# Altium integrated library ubloxLib.IntLib: 88 symbols (part 1 of 3)
Pins are listed as number, name and electrical type; pins without a type are passive.

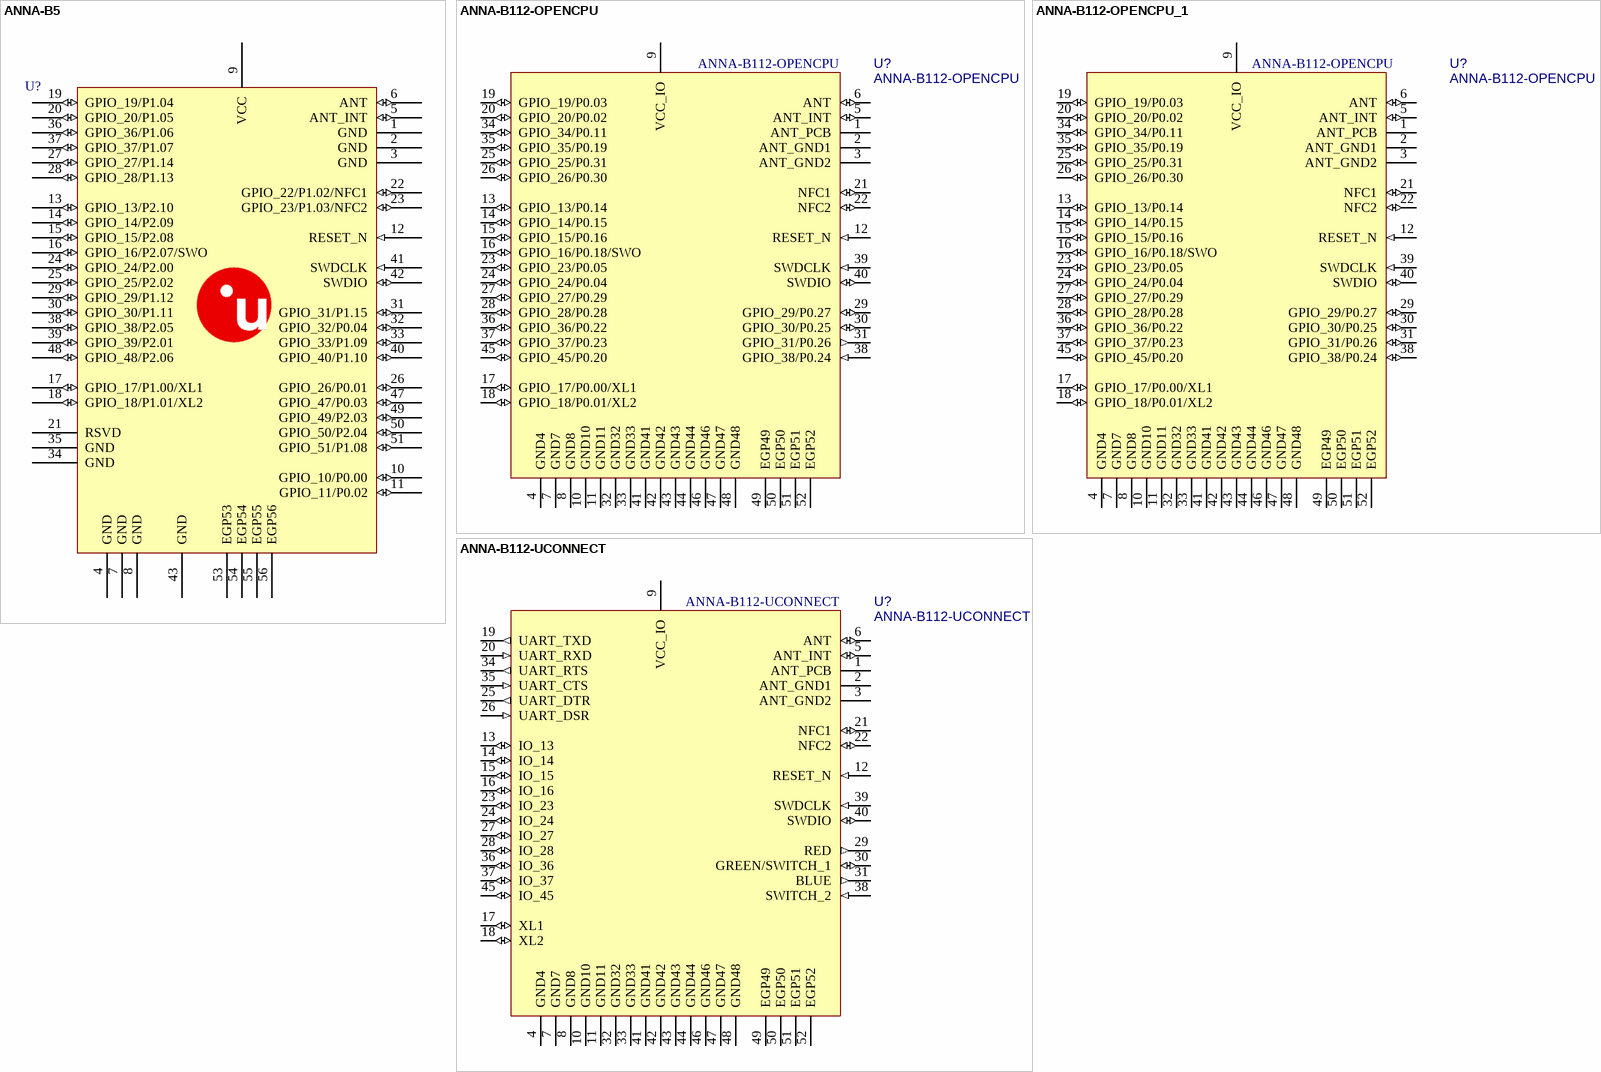
[diagram p0: symbols ANNA-B5 to ANNA-B112-UCONNECT]

## ANNA-B5
designator U?
SHORT RANGE BLE AND IEEE802.15.4 SIP U-BLOX ANNA-B5
footprint ANNA-B5 (Stand-alone BLE and IEEE802.15.4 module)
pins: 1 GND (power), 2 GND (power), 3 GND (power), 4 GND (power), 5 ANT_INT (io), 6 ANT (io), 7 GND (power), 8 GND (power), 9 VCC (power), 10 GPIO_10/P0.00 (io), 11 GPIO_11/P0.02 (io), 12 RESET_N (in), 13 GPIO_13/P2.10 (io), 14 GPIO_14/P2.09 (io), 15 GPIO_15/P2.08 (io), 16 GPIO_16/P2.07/SWO (io), 17 GPIO_17/P1.00/XL1 (io), 18 GPIO_18/P1.01/XL2 (io), 19 GPIO_19/P1.04 (io), 20 GPIO_20/P1.05 (io), 21 RSVD (power), 22 GPIO_22/P1.02/NFC1 (io), 23 GPIO_23/P1.03/NFC2 (io), 24 GPIO_24/P2.00 (io), 25 GPIO_25/P2.02 (io), 26 GPIO_26/P0.01 (io), 27 GPIO_27/P1.14 (io), 28 GPIO_28/P1.13 (io), 29 GPIO_29/P1.12 (io), 30 GPIO_30/P1.11 (io), 31 GPIO_31/P1.15 (io), 32 GPIO_32/P0.04 (io), 33 GPIO_33/P1.09 (io), 34 GND (power), 35 GND (power), 36 GPIO_36/P1.06 (io), 37 GPIO_37/P1.07 (io), 38 GPIO_38/P2.05 (io), 39 GPIO_39/P2.01 (io), 40 GPIO_40/P1.10 (io), 41 SWDCLK (in), 42 SWDIO (io), 43 GND (power), 47 GPIO_47/P0.03 (io), 48 GPIO_48/P2.06 (io), 49 GPIO_49/P2.03 (io), 50 GPIO_50/P2.04 (io), 51 GPIO_51/P1.08 (io), 53 EGP53 (power), 54 EGP54 (power), 55 EGP55 (power), 56 EGP56 (power)

## ANNA-B112-OPENCPU
designator U?
u-blox ANNA-B112 Bluetooth 5 LE module; Part Description: Stand-alone Bluetooth low energy module; Manufacturer: u-blox; Value: ANNA-B112-OPENCPU
footprint ANNA_LGA52S_650X650
pins: 1 ANT_PCB, 2 ANT_GND1 (power), 3 ANT_GND2 (power), 4 GND4 (power), 5 ANT_INT (io), 6 ANT (io), 7 GND7 (power), 8 GND8 (power), 9 VCC_IO (power), 10 GND10 (power), 11 GND11 (power), 12 RESET_N (in), 13 GPIO_13/P0.14 (io), 14 GPIO_14/P0.15 (io), 15 GPIO_15/P0.16 (io), 16 GPIO_16/P0.18/SWO (io), 17 GPIO_17/P0.00/XL1 (io), 18 GPIO_18/P0.01/XL2 (io), 19 GPIO_19/P0.03 (io), 20 GPIO_20/P0.02 (io), 21 NFC1 (io), 22 NFC2 (io), 23 GPIO_23/P0.05 (io), 24 GPIO_24/P0.04 (io), 25 GPIO_25/P0.31 (io), 26 GPIO_26/P0.30 (io), 27 GPIO_27/P0.29 (io), 28 GPIO_28/P0.28 (io), 29 GPIO_29/P0.27 (io), 30 GPIO_30/P0.25 (io), 31 GPIO_31/P0.26 (out), 32 GND32 (power), 33 GND33 (power), 34 GPIO_34/P0.11 (io), 35 GPIO_35/P0.19 (io), 36 GPIO_36/P0.22 (io), 37 GPIO_37/P0.23 (io), 38 GPIO_38/P0.24 (in), 39 SWDCLK (in), 40 SWDIO (io), 41 GND41 (power), 42 GND42 (power), 43 GND43 (power), 44 GND44 (power), 45 GPIO_45/P0.20 (io), 46 GND46 (power), 47 GND47 (power), 48 GND48 (power), 49 EGP49 (power), 50 EGP50 (power), 51 EGP51 (power), 52 EGP52 (power)

## ANNA-B112-OPENCPU_1
designator U?, comment ANNA-B112-OPENCPU
u-blox ANNA-B112 Bluetooth 5 LE module; Part Description: Stand-alone Bluetooth low energy module; Manufacturer: u-blox; Value: ANNA-B112-OPENCPU
footprint ANNA_LGA52S_650X650
pins: 1 ANT_PCB, 2 ANT_GND1 (power), 3 ANT_GND2 (power), 4 GND4 (power), 5 ANT_INT (io), 6 ANT (io), 7 GND7 (power), 8 GND8 (power), 9 VCC_IO (power), 10 GND10 (power), 11 GND11 (power), 12 RESET_N (in), 13 GPIO_13/P0.14 (io), 14 GPIO_14/P0.15 (io), 15 GPIO_15/P0.16 (io), 16 GPIO_16/P0.18/SWO (io), 17 GPIO_17/P0.00/XL1 (io), 18 GPIO_18/P0.01/XL2 (io), 19 GPIO_19/P0.03 (io), 20 GPIO_20/P0.02 (io), 21 NFC1 (io), 22 NFC2 (io), 23 GPIO_23/P0.05 (io), 24 GPIO_24/P0.04 (io), 25 GPIO_25/P0.31 (io), 26 GPIO_26/P0.30 (io), 27 GPIO_27/P0.29 (io), 28 GPIO_28/P0.28 (io), 29 GPIO_29/P0.27 (io), 30 GPIO_30/P0.25 (io), 31 GPIO_31/P0.26 (io), 32 GND32 (power), 33 GND33 (power), 34 GPIO_34/P0.11 (io), 35 GPIO_35/P0.19 (io), 36 GPIO_36/P0.22 (io), 37 GPIO_37/P0.23 (io), 38 GPIO_38/P0.24 (io), 39 SWDCLK (in), 40 SWDIO (io), 41 GND41 (power), 42 GND42 (power), 43 GND43 (power), 44 GND44 (power), 45 GPIO_45/P0.20 (io), 46 GND46 (power), 47 GND47 (power), 48 GND48 (power), 49 EGP49 (power), 50 EGP50 (power), 51 EGP51 (power), 52 EGP52 (power)

## ANNA-B112-UCONNECT
designator U?
u-blox ANNA-B112 Bluetooth 5 LE module; Part Description: Stand-alone Bluetooth low energy module; Manufacturer: u-blox; Value: ANNA-B112-UCONNECT
footprint ANNA_LGA52S_650X650
pins: 1 ANT_PCB, 2 ANT_GND1 (power), 3 ANT_GND2 (power), 4 GND4 (power), 5 ANT_INT (io), 6 ANT (io), 7 GND7 (power), 8 GND8 (power), 9 VCC_IO (power), 10 GND10 (power), 11 GND11 (power), 12 RESET_N (in), 13 IO_13 (io), 14 IO_14 (io), 15 IO_15 (io), 16 IO_16 (io), 17 XL1 (io), 18 XL2 (io), 19 UART_TXD (out), 20 UART_RXD (in), 21 NFC1 (io), 22 NFC2 (io), 23 IO_23 (io), 24 IO_24 (io), 25 UART_DTR (out), 26 UART_DSR (in), 27 IO_27 (io), 28 IO_28 (io), 29 RED (out), 30 GREEN/SWITCH_1 (io), 31 BLUE (out), 32 GND32 (power), 33 GND33 (power), 34 UART_RTS (out), 35 UART_CTS (in), 36 IO_36 (io), 37 IO_37 (io), 38 SWITCH_2 (in), 39 SWDCLK (in), 40 SWDIO (io), 41 GND41 (power), 42 GND42 (power), 43 GND43 (power), 44 GND44 (power), 45 IO_45 (io), 46 GND46 (power), 47 GND47 (power), 48 GND48 (power), 49 EGP49 (power), 50 EGP50 (power), 51 EGP51 (power), 52 EGP52 (power)

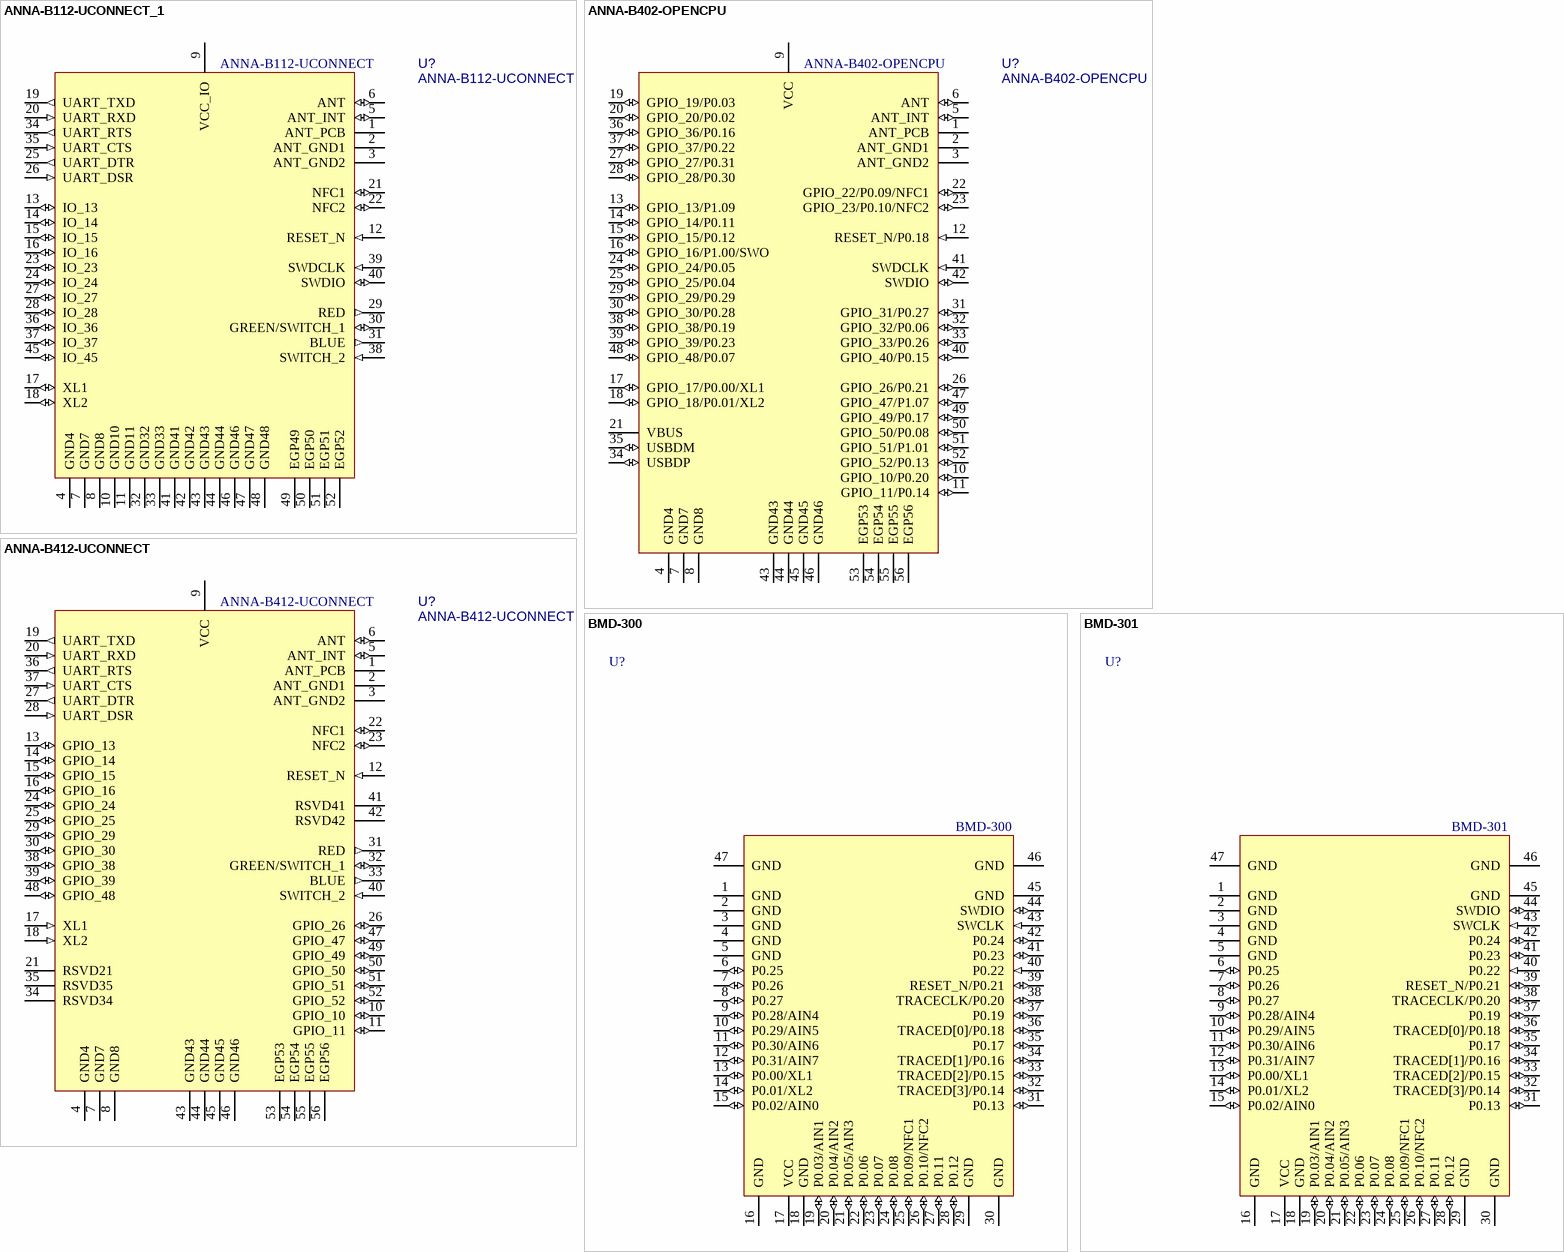
[diagram p1: symbols ANNA-B112-UCONNECT_1 to BMD-301]

## ANNA-B112-UCONNECT_1
designator U?, comment ANNA-B112-UCONNECT
u-blox ANNA-B112 Bluetooth 5 LE module; Part Description: Stand-alone Bluetooth low energy module; Manufacturer: u-blox; Value: ANNA-B112-UCONNECT
footprint ANNA_LGA52S_650X650
pins: 1 ANT_PCB, 2 ANT_GND1 (power), 3 ANT_GND2 (power), 4 GND4 (power), 5 ANT_INT (io), 6 ANT (io), 7 GND7 (power), 8 GND8 (power), 9 VCC_IO (power), 10 GND10 (power), 11 GND11 (power), 12 RESET_N (in), 13 IO_13 (io), 14 IO_14 (io), 15 IO_15 (io), 16 IO_16 (io), 17 XL1 (io), 18 XL2 (io), 19 UART_TXD (out), 20 UART_RXD (in), 21 NFC1 (io), 22 NFC2 (io), 23 IO_23 (io), 24 IO_24 (io), 25 UART_DTR (out), 26 UART_DSR (in), 27 IO_27 (io), 28 IO_28 (io), 29 RED (out), 30 GREEN/SWITCH_1 (io), 31 BLUE (out), 32 GND32 (power), 33 GND33 (power), 34 UART_RTS (out), 35 UART_CTS (in), 36 IO_36 (io), 37 IO_37 (io), 38 SWITCH_2 (in), 39 SWDCLK (in), 40 SWDIO (io), 41 GND41 (power), 42 GND42 (power), 43 GND43 (power), 44 GND44 (power), 45 IO_45 (io), 46 GND46 (power), 47 GND47 (power), 48 GND48 (power), 49 EGP49 (power), 50 EGP50 (power), 51 EGP51 (power), 52 EGP52 (power)

## ANNA-B402-OPENCPU
designator U?
u-blox ANNA-B402 Bluetooth 5 LE module; Part Description: Stand-alone Bluetooth low energy module; Manufacturer: u-blox; Value: ANNA-B402-OPENCPU
footprint ANNA-B4_LGA52S_650X650
pins: 1 ANT_PCB, 2 ANT_GND1 (power), 3 ANT_GND2 (power), 4 GND4 (power), 5 ANT_INT (io), 6 ANT (io), 7 GND7 (power), 8 GND8 (power), 9 VCC (power), 10 GPIO_10/P0.20 (io), 11 GPIO_11/P0.14 (io), 12 RESET_N/P0.18 (in), 13 GPIO_13/P1.09 (io), 14 GPIO_14/P0.11 (io), 15 GPIO_15/P0.12 (io), 16 GPIO_16/P1.00/SWO (io), 17 GPIO_17/P0.00/XL1 (io), 18 GPIO_18/P0.01/XL2 (io), 19 GPIO_19/P0.03 (io), 20 GPIO_20/P0.02 (io), 21 VBUS (power), 22 GPIO_22/P0.09/NFC1 (io), 23 GPIO_23/P0.10/NFC2 (io), 24 GPIO_24/P0.05 (io), 25 GPIO_25/P0.04 (io), 26 GPIO_26/P0.21 (io), 27 GPIO_27/P0.31 (io), 28 GPIO_28/P0.30 (io), 29 GPIO_29/P0.29 (io), 30 GPIO_30/P0.28 (io), 31 GPIO_31/P0.27 (io), 32 GPIO_32/P0.06 (io), 33 GPIO_33/P0.26 (io), 34 USBDP (io), 35 USBDM (io), 36 GPIO_36/P0.16 (io), 37 GPIO_37/P0.22 (io), 38 GPIO_38/P0.19 (io), 39 GPIO_39/P0.23 (io), 40 GPIO_40/P0.15 (io), 41 SWDCLK (in), 42 SWDIO (io), 43 GND43 (power), 44 GND44 (power), 45 GND45 (power), 46 GND46 (power), 47 GPIO_47/P1.07 (io), 48 GPIO_48/P0.07 (io), 49 GPIO_49/P0.17 (io), 50 GPIO_50/P0.08 (io), 51 GPIO_51/P1.01 (io), 52 GPIO_52/P0.13 (io), 53 EGP53 (power), 54 EGP54 (power), 55 EGP55 (power), 56 EGP56 (power)

## ANNA-B412-UCONNECT
designator U?
u-blox ANNA-B112 Bluetooth 5 LE module; Part Description: Stand-alone Bluetooth low energy module; Manufacturer: u-blox; Value: ANNA-B412-UCONNECT
footprint ANNA-B4_LGA52S_650X650
pins: 1 ANT_PCB, 2 ANT_GND1 (power), 3 ANT_GND2 (power), 4 GND4 (power), 5 ANT_INT (io), 6 ANT (io), 7 GND7 (power), 8 GND8 (power), 9 VCC (power), 10 GPIO_10 (io), 11 GPIO_11 (io), 12 RESET_N (in), 13 GPIO_13 (io), 14 GPIO_14 (io), 15 GPIO_15 (io), 16 GPIO_16 (io), 17 XL1 (in), 18 XL2 (in), 19 UART_TXD (out), 20 UART_RXD (in), 21 RSVD21, 22 NFC1 (io), 23 NFC2 (io), 24 GPIO_24 (io), 25 GPIO_25 (io), 26 GPIO_26 (io), 27 UART_DTR (out), 28 UART_DSR (in), 29 GPIO_29 (io), 30 GPIO_30 (io), 31 RED (out), 32 GREEN/SWITCH_1 (io), 33 BLUE (out), 34 RSVD34, 35 RSVD35, 36 UART_RTS (out), 37 UART_CTS (in), 38 GPIO_38 (io), 39 GPIO_39 (io), 40 SWITCH_2 (in), 41 RSVD41, 42 RSVD42, 43 GND43 (power), 44 GND44 (power), 45 GND45 (power), 46 GND46 (power), 47 GPIO_47 (io), 48 GPIO_48 (io), 49 GPIO_49 (io), 50 GPIO_50 (io), 51 GPIO_51 (io), 52 GPIO_52 (io), 53 EGP53 (power), 54 EGP54 (power), 55 EGP55 (power), 56 EGP56 (power)

## BMD-300
designator U?  Part Number: BMD-300
u-blox BMD-300 Bluetooth 5 LE module; Manufacturer P/N: BMD-300-A-R; Body Size: 14mm x 9.8mm; Internal Antenna: PCB; Protocol: BT 5 LE, 2.4GHz Proprietary; Manufacturer: u-blox; Height: 1.9mm
footprint BMD_LGA47S_1400X980X190_PCB (LGA, 47pin, 1.1mm Pitch, 14mm x 9.8mm)
pins: 1 GND (power), 2 GND (power), 3 GND (power), 4 GND (power), 5 GND (power), 6 P0.25 (io), 7 P0.26 (io), 8 P0.27 (io), 9 P0.28/AIN4 (io), 10 P0.29/AIN5 (io), 11 P0.30/AIN6 (io), 12 P0.31/AIN7 (io), 13 P0.00/XL1 (io), 14 P0.01/XL2 (io), 15 P0.02/AIN0 (io), 16 GND (power), 17 VCC (power), 18 GND (power), 19 P0.03/AIN1 (io), 20 P0.04/AIN2 (io), 21 P0.05/AIN3 (io), 22 P0.06 (io), 23 P0.07 (io), 24 P0.08 (io), 25 P0.09/NFC1 (io), 26 P0.10/NFC2 (io), 27 P0.11 (io), 28 P0.12 (io), 29 GND (power), 30 GND (power), 31 P0.13 (io), 32 TRACED[3]/P0.14 (io), 33 TRACED[2]/P0.15 (io), 34 TRACED[1]/P0.16 (io), 35 P0.17 (io), 36 TRACED[0]/P0.18 (io), 37 P0.19 (io), 38 TRACECLK/P0.20 (io), 39 RESET_N/P0.21 (io), 40 P0.22 (in), 41 P0.23 (io), 42 P0.24 (io), 43 SWCLK (in), 44 SWDIO (io), 45 GND (power), 46 GND (power), 47 GND (power)

## BMD-301
designator U?  Part Number: BMD-301
u-blox BMD-301 Bluetooth 5 LE module; Manufacturer P/N: BMD-301-A-R; Body Size: 14mm x 9.8mm; Internal Antenna: U.FL; Protocol: BT 5 LE, 2.4GHz Proprietary; Manufacturer: u-blox; Height: 1.9mm
footprint BMD_LGA47S_1400X980X190_UFL (LGA, 47pin, 1.1mm Pitch, 14mm x 9.8mm)
pins: 1 GND (power), 2 GND (power), 3 GND (power), 4 GND (power), 5 GND (power), 6 P0.25 (io), 7 P0.26 (io), 8 P0.27 (io), 9 P0.28/AIN4 (io), 10 P0.29/AIN5 (io), 11 P0.30/AIN6 (io), 12 P0.31/AIN7 (io), 13 P0.00/XL1 (io), 14 P0.01/XL2 (io), 15 P0.02/AIN0 (io), 16 GND (power), 17 VCC (power), 18 GND (power), 19 P0.03/AIN1 (io), 20 P0.04/AIN2 (io), 21 P0.05/AIN3 (io), 22 P0.06 (io), 23 P0.07 (io), 24 P0.08 (io), 25 P0.09/NFC1 (io), 26 P0.10/NFC2 (io), 27 P0.11 (io), 28 P0.12 (io), 29 GND (power), 30 GND (power), 31 P0.13 (io), 32 TRACED[3]/P0.14 (io), 33 TRACED[2]/P0.15 (io), 34 TRACED[1]/P0.16 (io), 35 P0.17 (io), 36 TRACED[0]/P0.18 (io), 37 P0.19 (io), 38 TRACECLK/P0.20 (io), 39 RESET_N/P0.21 (io), 40 P0.22 (in), 41 P0.23 (io), 42 P0.24 (io), 43 SWCLK (in), 44 SWDIO (io), 45 GND (power), 46 GND (power), 47 GND (power)

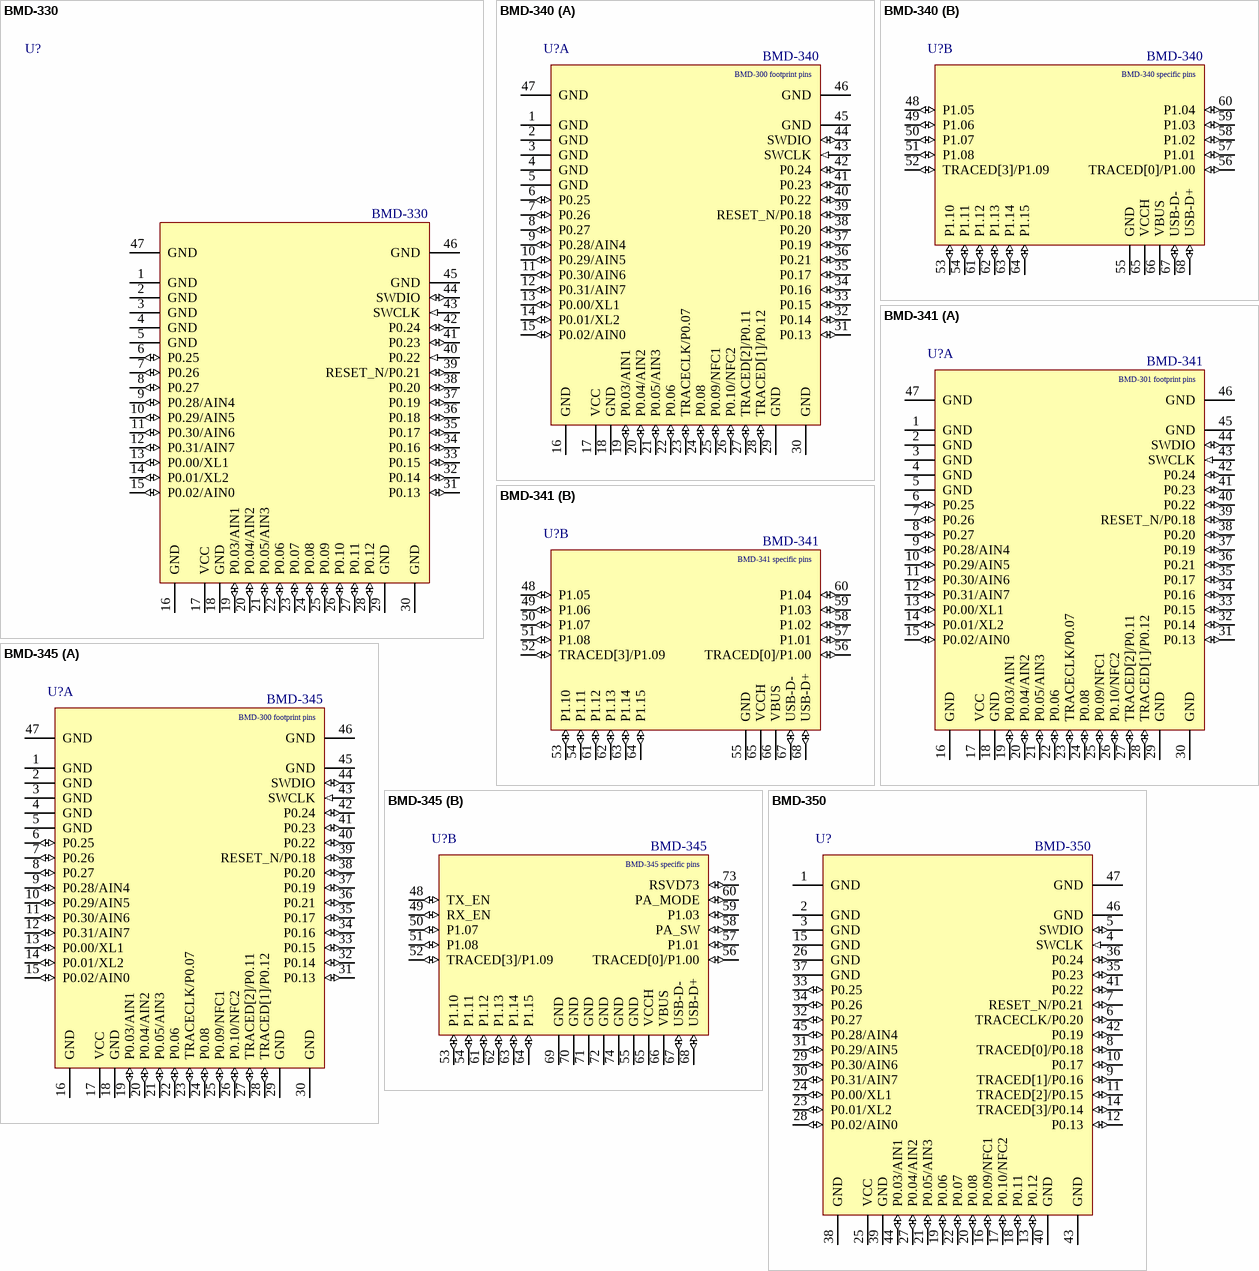
[diagram p2: symbols BMD-330 to BMD-350]

## BMD-330
designator U?  Part Number: BMD-330
u-blox BMD-330 Bluetooth 5 LE module; Manufacturer P/N: BMD-330-A-R; Body Size: 14mm x 9.8mm; Internal Antenna: PCB; Protocol: BT 5 LE, 2.4GHz Proprietary; Manufacturer: u-blox; Height: 1.9mm
footprint BMD_LGA47S_1400X980X190_PCB (LGA, 47pin, 1.1mm Pitch, 14mm x 9.8mm)
pins: 1 GND (power), 2 GND (power), 3 GND (power), 4 GND (power), 5 GND (power), 6 P0.25 (io), 7 P0.26 (io), 8 P0.27 (io), 9 P0.28/AIN4 (io), 10 P0.29/AIN5 (io), 11 P0.30/AIN6 (io), 12 P0.31/AIN7 (io), 13 P0.00/XL1 (io), 14 P0.01/XL2 (io), 15 P0.02/AIN0 (io), 16 GND (power), 17 VCC (power), 18 GND (power), 19 P0.03/AIN1 (io), 20 P0.04/AIN2 (io), 21 P0.05/AIN3 (io), 22 P0.06 (io), 23 P0.07 (io), 24 P0.08 (io), 25 P0.09 (io), 26 P0.10 (io), 27 P0.11 (io), 28 P0.12 (io), 29 GND (power), 30 GND (power), 31 P0.13 (io), 32 P0.14 (io), 33 P0.15 (io), 34 P0.16 (io), 35 P0.17 (io), 36 P0.18 (io), 37 P0.19 (io), 38 P0.20 (io), 39 RESET_N/P0.21 (io), 40 P0.22 (in), 41 P0.23 (io), 42 P0.24 (io), 43 SWCLK (in), 44 SWDIO (io), 45 GND (power), 46 GND (power), 47 GND (power)

## BMD-340
designator U?  Part Number: BMD-340
u-blox BMD-340 Bluetooth 5 LE, 802.15.4 module; Manufacturer P/N: BMD-340-A-R; Body Size: 15mm x 10.2mm; Internal Antenna: PCB; Protocol: BT 5 LE, 802.15.4, 2.4GHz Proprietary; Manufacturer: u-blox; Height: 1.9mm
footprint BMD_LGA68S_1500X1020X190_PCB (LGA, 68pin, 1.1mm Pitch, 15mm x 10.2mm)
part A pins: 1 GND (power), 2 GND (power), 3 GND (power), 4 GND (power), 5 GND (power), 6 P0.25 (io), 7 P0.26 (io), 8 P0.27 (io), 9 P0.28/AIN4 (io), 10 P0.29/AIN5 (io), 11 P0.30/AIN6 (io), 12 P0.31/AIN7 (io), 13 P0.00/XL1 (io), 14 P0.01/XL2 (io), 15 P0.02/AIN0 (io), 16 GND (power), 17 VCC (power), 18 GND (power), 19 P0.03/AIN1 (io), 20 P0.04/AIN2 (io), 21 P0.05/AIN3 (io), 22 P0.06 (io), 23 TRACECLK/P0.07 (io), 24 P0.08 (io), 25 P0.09/NFC1 (io), 26 P0.10/NFC2 (io), 27 TRACED[2]/P0.11 (io), 28 TRACED[1]/P0.12 (io), 29 GND (power), 30 GND (power), 31 P0.13 (io), 32 P0.14 (io), 33 P0.15 (io), 34 P0.16 (io), 35 P0.17 (io), 36 P0.21 (io), 37 P0.19 (io), 38 P0.20 (io), 39 RESET_N/P0.18 (io), 40 P0.22 (io), 41 P0.23 (io), 42 P0.24 (io), 43 SWCLK (in), 44 SWDIO (io), 45 GND (power), 46 GND (power), 47 GND (power)
part B pins: 48 P1.05 (io), 49 P1.06 (io), 50 P1.07 (io), 51 P1.08 (io), 52 TRACED[3]/P1.09 (io), 53 P1.10 (io), 54 P1.11 (io), 55 GND (power), 56 TRACED[0]/P1.00 (io), 57 P1.01 (io), 58 P1.02 (io), 59 P1.03 (io), 60 P1.04 (io), 61 P1.12 (io), 62 P1.13 (io), 63 P1.14 (io), 64 P1.15 (io), 65 VCCH (power), 66 VBUS (power), 67 USB-D- (io), 68 USB-D+ (io)
part A text: BMD-300 footprint pins
part B text: BMD-340 specific pins

## BMD-341
designator U?  Part Number: BMD-341
u-blox BMD-341 Bluetooth 5 LE, 802.15.4 module; Manufacturer P/N: BMD-341-A-R; Body Size: 15mm x 10.2mm; Internal Antenna: PCB; Protocol: BT 5 LE, 802.15.4, 2.4GHz Proprietary; Manufacturer: u-blox; Height: 1.9mm
footprint BMD_LGA68S_1500X1020X190_UFL (LGA, 68pin, 1.1mm Pitch, 15mm x 10.2mm)
part A pins: 1 GND (power), 2 GND (power), 3 GND (power), 4 GND (power), 5 GND (power), 6 P0.25 (io), 7 P0.26 (io), 8 P0.27 (io), 9 P0.28/AIN4 (io), 10 P0.29/AIN5 (io), 11 P0.30/AIN6 (io), 12 P0.31/AIN7 (io), 13 P0.00/XL1 (io), 14 P0.01/XL2 (io), 15 P0.02/AIN0 (io), 16 GND (power), 17 VCC (power), 18 GND (power), 19 P0.03/AIN1 (io), 20 P0.04/AIN2 (io), 21 P0.05/AIN3 (io), 22 P0.06 (io), 23 TRACECLK/P0.07 (io), 24 P0.08 (io), 25 P0.09/NFC1 (io), 26 P0.10/NFC2 (io), 27 TRACED[2]/P0.11 (io), 28 TRACED[1]/P0.12 (io), 29 GND (power), 30 GND (power), 31 P0.13 (io), 32 P0.14 (io), 33 P0.15 (io), 34 P0.16 (io), 35 P0.17 (io), 36 P0.21 (io), 37 P0.19 (io), 38 P0.20 (io), 39 RESET_N/P0.18 (io), 40 P0.22 (io), 41 P0.23 (io), 42 P0.24 (io), 43 SWCLK (in), 44 SWDIO (io), 45 GND (power), 46 GND (power), 47 GND (power)
part B pins: 48 P1.05 (io), 49 P1.06 (io), 50 P1.07 (io), 51 P1.08 (io), 52 TRACED[3]/P1.09 (io), 53 P1.10 (io), 54 P1.11 (io), 55 GND (power), 56 TRACED[0]/P1.00 (io), 57 P1.01 (io), 58 P1.02 (io), 59 P1.03 (io), 60 P1.04 (io), 61 P1.12 (io), 62 P1.13 (io), 63 P1.14 (io), 64 P1.15 (io), 65 VCCH (power), 66 VBUS (power), 67 USB-D- (io), 68 USB-D+ (io)
part A text: BMD-301 footprint pins
part B text: BMD-341 specific pins

## BMD-345
designator U?  Part Number: BMD-345
u-blox BMD-345 Bluetooth 5 LE, 802.15.4 module with FEM; Manufacturer P/N: BMD-345-A-R; Body Size: 15mm x 10.2mm; Internal Antenna: PCB; Protocol: BT 5 LE, 802.15.4, 2.4GHz Proprietary; Manufacturer: u-blox; Height: 1.9mm
footprint BMD_LGA74S_1500X1020X190_UFL (LGA, 68pin, 1.1mm Pitch, 15mm x 10.2mm)
part A pins: 1 GND (power), 2 GND (power), 3 GND (power), 4 GND (power), 5 GND (power), 6 P0.25 (io), 7 P0.26 (io), 8 P0.27 (io), 9 P0.28/AIN4 (io), 10 P0.29/AIN5 (io), 11 P0.30/AIN6 (io), 12 P0.31/AIN7 (io), 13 P0.00/XL1 (io), 14 P0.01/XL2 (io), 15 P0.02/AIN0 (io), 16 GND (power), 17 VCC (power), 18 GND (power), 19 P0.03/AIN1 (io), 20 P0.04/AIN2 (io), 21 P0.05/AIN3 (io), 22 P0.06 (io), 23 TRACECLK/P0.07 (io), 24 P0.08 (io), 25 P0.09/NFC1 (io), 26 P0.10/NFC2 (io), 27 TRACED[2]/P0.11 (io), 28 TRACED[1]/P0.12 (io), 29 GND (power), 30 GND (power), 31 P0.13 (io), 32 P0.14 (io), 33 P0.15 (io), 34 P0.16 (io), 35 P0.17 (io), 36 P0.21 (io), 37 P0.19 (io), 38 P0.20 (io), 39 RESET_N/P0.18 (io), 40 P0.22 (io), 41 P0.23 (io), 42 P0.24 (io), 43 SWCLK (in), 44 SWDIO (io), 45 GND (power), 46 GND (power), 47 GND (power)
part B pins: 48 TX_EN (io), 49 RX_EN (io), 50 P1.07 (io), 51 P1.08 (io), 52 TRACED[3]/P1.09 (io), 53 P1.10 (io), 54 P1.11 (io), 55 GND (power), 56 TRACED[0]/P1.00 (io), 57 P1.01 (io), 58 PA_SW (io), 59 P1.03 (io), 60 PA_MODE (io), 61 P1.12 (io), 62 P1.13 (io), 63 P1.14 (io), 64 P1.15 (io), 65 VCCH (power), 66 VBUS (power), 67 USB-D- (io), 68 USB-D+ (io), 69 GND (power), 70 GND (power), 71 GND (power), 72 GND (power), 73 RSVD73 (io), 74 GND (power)
part A text: BMD-300 footprint pins
part B text: BMD-345 specific pins

## BMD-350
designator U?  Part Number: BMD-350
u-blox BMD-350 Bluetooth 5 LE module; Manufacturer P/N: BMD-350-A-R; Internal Antenna: CHIP; Protocol: BT 5 LE, 2.4GHz Proprietary; Body Size: 8.65mm x 6.4mm; Height: 1.5mm; Manufacturer: u-blox
footprint BMD_LGA47S_865X640X150_CHIP (LGA, 47pin, 0.8mm Pitch, 8.65mm x 6.4mm)
pins: 1 GND (power), 2 GND (power), 3 GND (power), 4 SWCLK (in), 5 SWDIO (io), 6 TRACECLK/P0.20 (io), 7 RESET_N/P0.21 (io), 8 TRACED[0]/P0.18 (io), 9 TRACED[1]/P0.16 (io), 10 P0.17 (io), 11 TRACED[2]/P0.15 (io), 12 P0.13 (io), 13 P0.12 (io), 14 TRACED[3]/P0.14 (io), 15 GND (power), 16 P0.09/NFC1 (io), 17 P0.10/NFC2 (io), 18 P0.11 (io), 19 P0.06 (io), 20 P0.08 (io), 21 P0.05/AIN3 (io), 22 P0.07 (io), 23 P0.01/XL2 (io), 24 P0.00/XL1 (io), 25 VCC (power), 26 GND (power), 27 P0.04/AIN2 (io), 28 P0.02/AIN0 (io), 29 P0.30/AIN6 (io), 30 P0.31/AIN7 (io), 31 P0.29/AIN5 (io), 32 P0.27 (io), 33 P0.25 (io), 34 P0.26 (io), 35 P0.23 (io), 36 P0.24 (io), 37 GND (power), 38 GND (power), 39 GND (power), 40 GND (power), 41 P0.22 (io), 42 P0.19 (io), 43 GND (power), 44 P0.03/AIN1 (io), 45 P0.28/AIN4 (io), 46 GND (power), 47 GND (power)

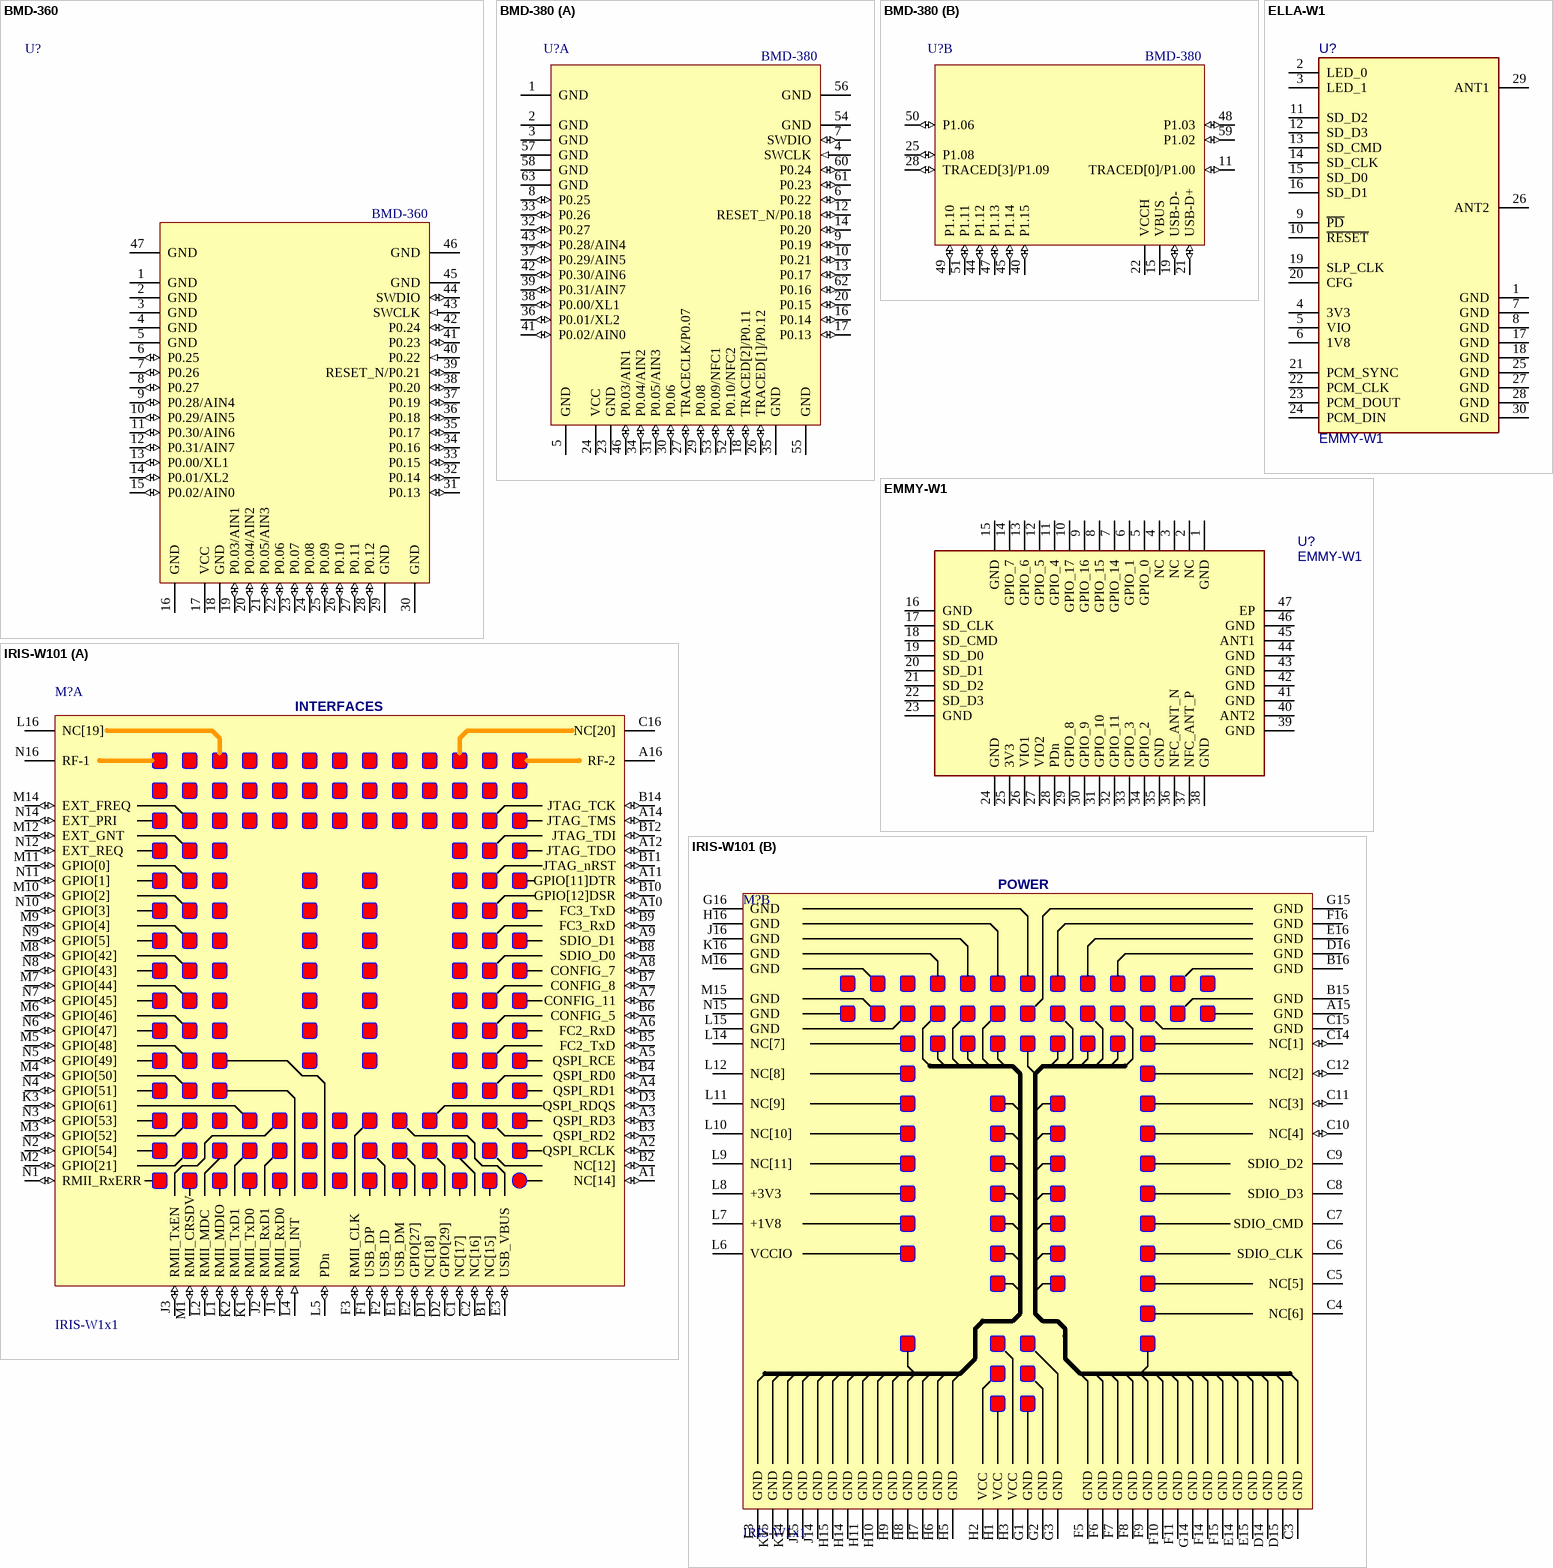
[diagram p3: symbols BMD-360 to IRIS-W101]

## BMD-360
designator U?  Part Number: BMD-360
u-blox BMD-360 Bluetooth 5.1 LE, 802.15.4 module; Manufacturer P/N: BMD-360-A-R; Body Size: 14mm x 9.8mm; Internal Antenna: PCB; Protocol: BT 5.1 LE, 802.15.4, 2.4GHz Proprietary; Manufacturer: u-blox; Height: 1.9mm
footprint BMD_LGA47S_1400X980X190_PCB (LGA, 47pin, 1.1mm Pitch, 14mm x 9.8mm)
pins: 1 GND (power), 2 GND (power), 3 GND (power), 4 GND (power), 5 GND (power), 6 P0.25 (io), 7 P0.26 (io), 8 P0.27 (io), 9 P0.28/AIN4 (io), 10 P0.29/AIN5 (io), 11 P0.30/AIN6 (io), 12 P0.31/AIN7 (io), 13 P0.00/XL1 (io), 14 P0.01/XL2 (io), 15 P0.02/AIN0 (io), 16 GND (power), 17 VCC (power), 18 GND (power), 19 P0.03/AIN1 (io), 20 P0.04/AIN2 (io), 21 P0.05/AIN3 (io), 22 P0.06 (io), 23 P0.07 (io), 24 P0.08 (io), 25 P0.09 (io), 26 P0.10 (io), 27 P0.11 (io), 28 P0.12 (io), 29 GND (power), 30 GND (power), 31 P0.13 (io), 32 P0.14 (io), 33 P0.15 (io), 34 P0.16 (io), 35 P0.17 (io), 36 P0.18 (io), 37 P0.19 (io), 38 P0.20 (io), 39 RESET_N/P0.21 (io), 40 P0.22 (in), 41 P0.23 (io), 42 P0.24 (io), 43 SWCLK (in), 44 SWDIO (io), 45 GND (power), 46 GND (power), 47 GND (power)

## BMD-380
designator U?  Part Number: BMD-380
u-blox BMD-380 Bluetooth 5 LE, 802.15.4 module; Manufacturer P/N: BMD-380-A-R; Body Size: 9.5mm x 7.5mm; Internal Antenna: Yes; Protocol: BT 5.1 LE, 802.15.4, 2.4GHz Proprietary; Manufacturer: u-blox; Height: 1.5mm
footprint BMD_LGA63S_950X750X150_CHIP (WLCSP, 63pin, 0.85mm Pitch, 9.5mm x 7.5mm)
part A pins: 1 GND (power), 2 GND (power), 3 GND (power), 4 SWCLK (in), 5 GND (power), 6 P0.22 (io), 7 SWDIO (io), 8 P0.25 (io), 9 P0.19 (io), 10 P0.21 (io), 12 RESET_N/P0.18 (io), 13 P0.17 (io), 14 P0.20 (io), 16 P0.14 (io), 17 P0.13 (io), 18 TRACED[2]/P0.11 (io), 20 P0.15 (io), 23 GND (power), 24 VCC (power), 26 TRACED[1]/P0.12 (io), 27 TRACECLK/P0.07 (io), 29 P0.08 (io), 30 P0.06 (io), 31 P0.05/AIN3 (io), 32 P0.27 (io), 33 P0.26 (io), 34 P0.04/AIN2 (io), 35 GND (power), 36 P0.01/XL2 (io), 37 P0.29/AIN5 (io), 38 P0.00/XL1 (io), 39 P0.31/AIN7 (io), 41 P0.02/AIN0 (io), 42 P0.30/AIN6 (io), 43 P0.28/AIN4 (io), 46 P0.03/AIN1 (io), 52 P0.10/NFC2 (io), 53 P0.09/NFC1 (io), 54 GND (power), 55 GND (power), 56 GND (power), 57 GND (power), 58 GND (power), 60 P0.24 (io), 61 P0.23 (io), 62 P0.16 (io), 63 GND (power)
part B pins: 11 TRACED[0]/P1.00 (io), 15 VBUS (power), 19 USB-D- (io), 21 USB-D+ (io), 22 VCCH (power), 25 P1.08 (io), 28 TRACED[3]/P1.09 (io), 40 P1.15 (io), 44 P1.12 (io), 45 P1.14 (io), 47 P1.13 (io), 48 P1.03 (io), 49 P1.10 (io), 50 P1.06 (io), 51 P1.11 (io), 59 P1.02 (io)

## ELLA-W1
designator U?, comment EMMY-W1
u-blox ELLA-W1 IEEE 802.11a/b/g/n Wi-Fi, Bluetooth 3.0+HS Module; Manufacturer: u-blox; Part Description: IEEE 802.11a/b/g/n Wi-Fi, Bluetooth 3.0+HS Module; Value: EMMY-W1
footprint ELLA-W1 (IEEE 802.11a/b/g/n Wi-Fi, Bluetooth 3.0+HS Module)
pins: 1 GND (power), 2 LED_0, 3 LED_1, 4 3V3 (power), 5 VIO (power), 6 1V8 (power), 7 GND (power), 8 GND (power), 9 ~{PD}, 10 ~{RESET}, 11 SD_D2, 12 SD_D3, 13 SD_CMD, 14 SD_CLK, 15 SD_D0, 16 SD_D1, 17 GND (power), 18 GND (power), 19 SLP_CLK, 20 CFG, 21 PCM_SYNC, 22 PCM_CLK, 23 PCM_DOUT, 24 PCM_DIN, 25 GND (power), 26 ANT2, 27 GND (power), 28 GND (power), 29 ANT1, 30 GND (power)

## EMMY-W1
designator U?
u-blox EMMY-W1 host-based multiradio module with Wi-Fi, Bluetooth and NFC; Part Description: Host-based multiradio module with Wi-Fi, Bluetooth and NFC; Value: EMMY-W1; Manufacturer: u-blox
footprint EMMY-W1 (Host-based multiradio module with Wi-Fi, Bluetooth and NFC)
pins: 1 GND, 2 NC, 3 NC, 4 NC, 5 GPIO_0, 6 GPIO_1, 7 GPIO_14, 8 GPIO_15, 9 GPIO_16, 10 GPIO_17, 11 GPIO_4, 12 GPIO_5, 13 GPIO_6, 14 GPIO_7, 15 GND, 16 GND, 17 SD_CLK, 18 SD_CMD, 19 SD_D0, 20 SD_D1, 21 SD_D2, 22 SD_D3, 23 GND, 24 GND, 25 3V3, 26 VIO1, 27 VIO2, 28 PDn, 29 GPIO_8, 30 GPIO_9, 31 GPIO_10, 32 GPIO_11, 33 GPIO_3, 34 GPIO_2, 35 GND, 36 NFC_ANT_N, 37 NFC_ANT_P, 38 GND, 39 GND, 40 ANT2, 41 GND, 42 GND, 43 GND, 44 GND, 45 ANT1, 46 GND, 47 EP

## IRIS-W101
designator M?, comment IRIS-W1x1
SHORT RANGE STAND-ALONE MULTIRADIO MODULE U-BLOX IRIS-W101; Part Number: UBXH14-0000680; Editor: olof.viklund; Env: ROHS; Permitted Use: Volume Products; Perferred: PREF; Min Operating Temp: -40°C; Max Operating Temp: 85°C; Part Type: RF; UBX Wiki: https://wiki.u-blox.com/bin/view/Operations/PartDetails?index=38239; RefDes: A
footprint IRIS-W1x1 (IRIS LGA, 146pin ,1.1mm Pitch, 14.6mm x 16.8mm)
part A pins: A1 NC[14] (io), A2 QSPI_RCLK (io), A3 QSPI_RD3 (io), A4 QSPI_RD1 (io), A5 QSPI_RCE (io), A6 FC2_RxD (io), A7 CONFIG_11 (io), A8 CONFIG_7 (io), A9 SDIO_D1 (io), A10 FC3_TxD (io), A11 GPIO[11]DTR (io), A12 JTAG_TDO (io), A14 JTAG_TMS (io), A16 RF-2, B1 NC[15] (io), B2 NC[12] (io), B3 QSPI_RD2 (io), B4 QSPI_RD0 (io), B5 FC2_TxD (io), B6 CONFIG_5 (io), B7 CONFIG_8 (io), B8 SDIO_D0 (io), B9 FC3_RxD (io), B10 GPIO[12]DSR (io), B11 JTAG_nRST (io), B12 JTAG_TDI (io), B14 JTAG_TCK (io), C1 NC[17] (io), C2 NC[16] (io), C16 NC[20], D1 NC[18] (io), D2 GPIO[29] (io), D3 QSPI_RDQS (io), E1 USB_DM (io), E2 GPIO[27] (io), E3 USB_VBUS (io), F1 USB_DP (io), F2 USB_ID (io), F3 RMII_CLK (io), J1 RMII_RxD0 (io), J2 RMII_RxD1 (io), J3 RMII_TxEN (io), K1 RMII_TxD0 (io), K2 RMII_TxD1 (io), K3 GPIO[61] (io), L1 RMII_MDIO (io), L2 RMII_MDC (io), L4 RMII_INT (in), L5 PDn (io), L16 NC[19], M1 RMII_CRSDV (io), M2 GPIO[21] (io), M3 GPIO[52] (io), M4 GPIO[50] (io), M5 GPIO[48] (io), M6 GPIO[46] (io), M7 GPIO[44] (io), M8 GPIO[42] (io), M9 GPIO[4] (io), M10 GPIO[2] (io), M11 GPIO[0] (io), M12 EXT_GNT (io), M14 EXT_FREQ (io), N1 RMII_RxERR (io), N2 GPIO[54] (io), N3 GPIO[53] (io), N4 GPIO[51] (io), N5 GPIO[49] (io), N6 GPIO[47] (io), N7 GPIO[45] (io), N8 GPIO[43] (io), N9 GPIO[5] (io), N10 GPIO[3] (io), N11 GPIO[1] (io), N12 EXT_REQ (io), N14 EXT_PRI (io), N16 RF-1
part B pins: A15 GND (power), B15 GND (power), B16 GND (power), C3 GND (power), C4 NC[6], C5 NC[5], C6 SDIO_CLK, C7 SDIO_CMD, C8 SDIO_D3, C9 SDIO_D2, C10 NC[4] (io), C11 NC[3] (io), C12 NC[2] (io), C14 NC[1] (io), C15 GND (power), D14 GND (power), D15 GND (power), D16 GND (power), E14 GND (power), E15 GND (power), E16 GND (power), F5 GND (power), F6 GND (power), F7 GND (power), F8 GND (power), F9 GND (power), F10 GND (power), F11 GND (power), F14 GND (power), F15 GND (power), F16 GND (power), G1 GND (power), G2 GND (power), G3 GND (power), G14 GND (power), G15 GND (power), G16 GND (power), H1 VCC (power), H2 VCC (power), H3 VCC (power), H5 GND (power), H6 GND (power), H7 GND (power), H8 GND (power), H9 GND (power), H10 GND (power), H11 GND (power), H14 GND (power), H15 GND (power), H16 GND (power), J14 GND (power), J15 GND (power), J16 GND (power), K14 GND (power), K15 GND (power), K16 GND (power), L3 GND (power), L6 VCCIO (power), L7 +1V8 (power), L8 +3V3 (power), L9 NC[11], L10 NC[10], L11 NC[9], L12 NC[8], L14 NC[7], L15 GND (power), M15 GND (power), M16 GND (power), N15 GND (power)
part A text: INTERFACES
part B text: POWER

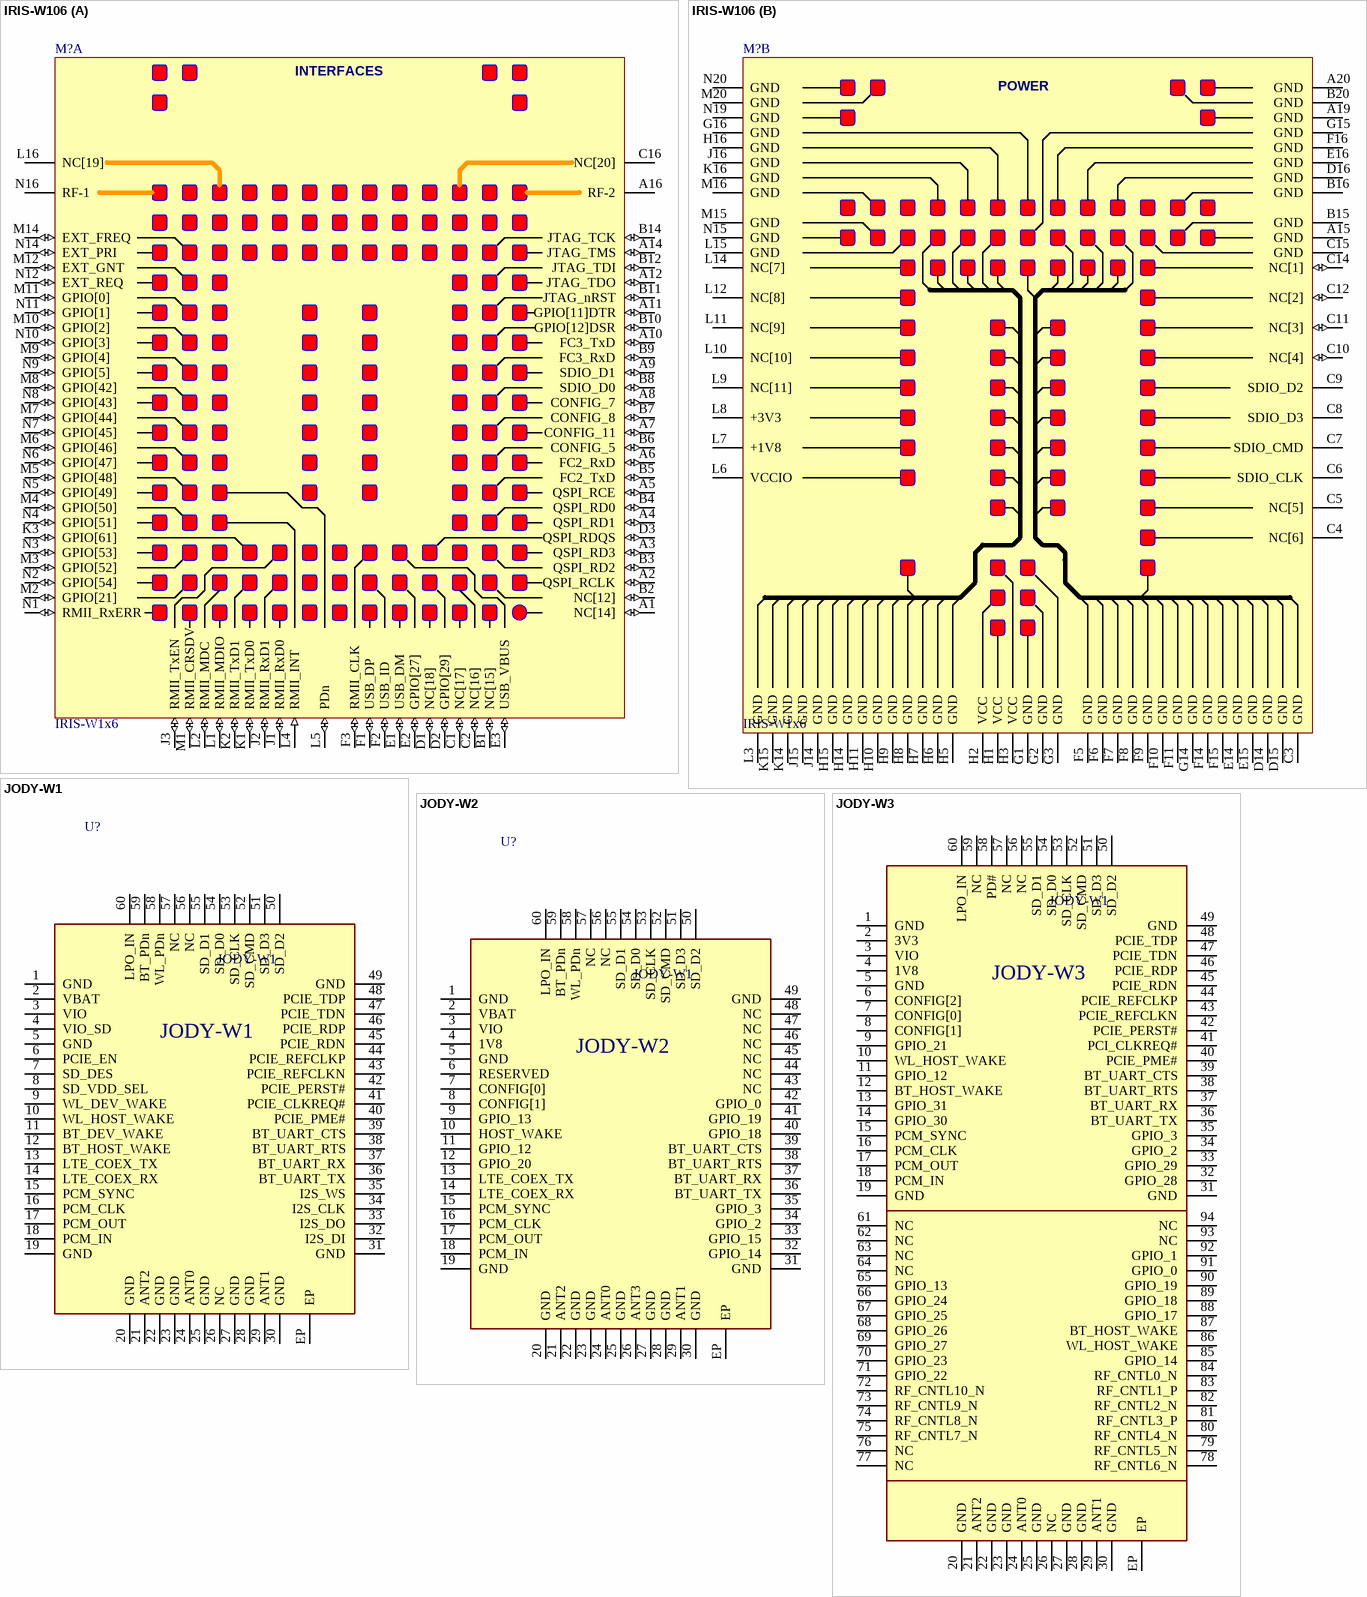
[diagram p4: symbols IRIS-W106 to JODY-W3]

## IRIS-W106
designator M?, comment IRIS-W1x6
SHORT RANGE STAND-ALONE MULTIRADIO MODULE U-BLOX IRIS-W106; Part Number: UBXH14-0000681; Editor: olof.viklund; Env: ROHS; Permitted Use: Volume Products; Perferred: PREF; Min Operating Temp: -40°C; Max Operating Temp: 85°C; Part Type: RF; UBX Wiki: https://wiki.u-blox.com/bin/view/Operations/PartDetails?index=38240; RefDes: A
footprint IRIS-W1x6 (IRIS LGA, 152pin ,1.1mm Pitch, 14.6mm x 20.9mm)
part A pins: A1 NC[14] (io), A2 QSPI_RCLK (io), A3 QSPI_RD3 (io), A4 QSPI_RD1 (io), A5 QSPI_RCE (io), A6 FC2_RxD (io), A7 CONFIG_11 (io), A8 CONFIG_7 (io), A9 SDIO_D1 (io), A10 FC3_TxD (io), A11 GPIO[11]DTR (io), A12 JTAG_TDO (io), A14 JTAG_TMS (io), A16 RF-2, B1 NC[15] (io), B2 NC[12] (io), B3 QSPI_RD2 (io), B4 QSPI_RD0 (io), B5 FC2_TxD (io), B6 CONFIG_5 (io), B7 CONFIG_8 (io), B8 SDIO_D0 (io), B9 FC3_RxD (io), B10 GPIO[12]DSR (io), B11 JTAG_nRST (io), B12 JTAG_TDI (io), B14 JTAG_TCK (io), C1 NC[17] (io), C2 NC[16] (io), C16 NC[20], D1 NC[18] (io), D2 GPIO[29] (io), D3 QSPI_RDQS (io), E1 USB_DM (io), E2 GPIO[27] (io), E3 USB_VBUS (io), F1 USB_DP (io), F2 USB_ID (io), F3 RMII_CLK (io), J1 RMII_RxD0 (io), J2 RMII_RxD1 (io), J3 RMII_TxEN (io), K1 RMII_TxD0 (io), K2 RMII_TxD1 (io), K3 GPIO[61] (io), L1 RMII_MDIO (io), L2 RMII_MDC (io), L4 RMII_INT (in), L5 PDn (io), L16 NC[19], M1 RMII_CRSDV (io), M2 GPIO[21] (io), M3 GPIO[52] (io), M4 GPIO[50] (io), M5 GPIO[48] (io), M6 GPIO[46] (io), M7 GPIO[44] (io), M8 GPIO[42] (io), M9 GPIO[4] (io), M10 GPIO[2] (io), M11 GPIO[0] (io), M12 EXT_GNT (io), M14 EXT_FREQ (io), N1 RMII_RxERR (io), N2 GPIO[54] (io), N3 GPIO[53] (io), N4 GPIO[51] (io), N5 GPIO[49] (io), N6 GPIO[47] (io), N7 GPIO[45] (io), N8 GPIO[43] (io), N9 GPIO[5] (io), N10 GPIO[3] (io), N11 GPIO[1] (io), N12 EXT_REQ (io), N14 EXT_PRI (io), N16 RF-1
part B pins: A15 GND (power), A19 GND, A20 GND, B15 GND (power), B16 GND (power), B20 GND, C3 GND (power), C4 NC[6], C5 NC[5], C6 SDIO_CLK, C7 SDIO_CMD, C8 SDIO_D3, C9 SDIO_D2, C10 NC[4] (io), C11 NC[3] (io), C12 NC[2] (io), C14 NC[1] (io), C15 GND (power), D14 GND (power), D15 GND (power), D16 GND (power), E14 GND (power), E15 GND (power), E16 GND (power), F5 GND (power), F6 GND (power), F7 GND (power), F8 GND (power), F9 GND (power), F10 GND (power), F11 GND (power), F14 GND (power), F15 GND (power), F16 GND (power), G1 GND (power), G2 GND (power), G3 GND (power), G14 GND (power), G15 GND (power), G16 GND (power), H1 VCC (power), H2 VCC (power), H3 VCC (power), H5 GND (power), H6 GND (power), H7 GND (power), H8 GND (power), H9 GND (power), H10 GND (power), H11 GND (power), H14 GND (power), H15 GND (power), H16 GND (power), J14 GND (power), J15 GND (power), J16 GND (power), K14 GND (power), K15 GND (power), K16 GND (power), L3 GND (power), L6 VCCIO (power), L7 +1V8 (power), L8 +3V3 (power), L9 NC[11], L10 NC[10], L11 NC[9], L12 NC[8], L14 NC[7], L15 GND (power), M15 GND (power), M16 GND (power), M20 GND, N15 GND (power), N19 GND, N20 GND
part A text: INTERFACES
part B text: POWER

## JODY-W1
designator U?
u-blox JODY-W1 host-based modules with Wi-Fi and dual-mode Bluetooth; Value: JODY-W1; Manufacturer: u-blox; Part Description: Host-based modules with Wi-Fi and dual-mode Bluetooth
footprint JODY-W1
pins: 1 GND, 2 VBAT, 3 VIO, 4 VIO_SD (power), 5 GND, 6 PCIE_EN, 7 SD_DES, 8 SD_VDD_SEL, 9 WL_DEV_WAKE, 10 WL_HOST_WAKE, 11 BT_DEV_WAKE, 12 BT_HOST_WAKE, 13 LTE_COEX_TX, 14 LTE_COEX_RX, 15 PCM_SYNC, 16 PCM_CLK, 17 PCM_OUT, 18 PCM_IN, 19 GND, 20 GND, 21 ANT2, 22 GND, 23 GND, 24 ANT0, 25 GND, 26 NC, 27 GND, 28 GND, 29 ANT1, 30 GND, 31 GND, 32 I2S_DI, 33 I2S_DO, 34 I2S_CLK, 35 I2S_WS, 36 BT_UART_TX, 37 BT_UART_RX, 38 BT_UART_RTS, 39 BT_UART_CTS, 40 PCIE_PME#, 41 PCIE_CLKREQ#, 42 PCIE_PERST#, 43 PCIE_REFCLKN, 44 PCIE_REFCLKP, 45 PCIE_RDN, 46 PCIE_RDP, 47 PCIE_TDN, 48 PCIE_TDP, 49 GND, 50 SD_D2, 51 SD_D3, 52 SD_CMD, 53 SD_CLK, 54 SD_D0, 55 SD_D1, 56 NC, 57 NC, 58 WL_PDn, 59 BT_PDn, 60 LPO_IN, EP

## JODY-W2
designator U?, comment JODY-W1
u-blox JODY-W2 host-based modules with Wi-Fi and dual-mode Bluetooth; Value: JODY-W1; Manufacturer: u-blox; Part Description: Host-based modules with Wi-Fi and dual-mode Bluetooth
footprint JODY-W1
pins: 1 GND, 2 VBAT, 3 VIO, 4 1V8 (power), 5 GND, 6 RESERVED, 7 CONFIG[0], 8 CONFIG[1], 9 GPIO_13, 10 HOST_WAKE, 11 GPIO_12, 12 GPIO_20, 13 LTE_COEX_TX, 14 LTE_COEX_RX, 15 PCM_SYNC, 16 PCM_CLK, 17 PCM_OUT, 18 PCM_IN, 19 GND, 20 GND, 21 ANT2, 22 GND, 23 GND, 24 ANT0, 25 GND, 26 ANT3, 27 GND, 28 GND, 29 ANT1, 30 GND, 31 GND, 32 GPIO_14, 33 GPIO_15, 34 GPIO_2, 35 GPIO_3, 36 BT_UART_TX, 37 BT_UART_RX, 38 BT_UART_RTS, 39 BT_UART_CTS, 40 GPIO_18, 41 GPIO_19, 42 GPIO_0, 43 NC, 44 NC, 45 NC, 46 NC, 47 NC, 48 NC, 49 GND, 50 SD_D2, 51 SD_D3, 52 SD_CMD, 53 SD_CLK, 54 SD_D0, 55 SD_D1, 56 NC, 57 NC, 58 WL_PDn, 59 BT_PDn, 60 LPO_IN, EP

## JODY-W3
designator U?, comment JODY-W1
u-blox JODY-W3 host-based modules with Wi-Fi and dual-mode Bluetooth; Value: JODY-W1; Manufacturer: u-blox; Part Description: Host-based modules with Wi-Fi and dual-mode Bluetooth
footprint JODY-W3 (Host-based modules with Wi-Fi and dual-mode Bluetooth)
pins: 1 GND, 2 3V3 (power), 3 VIO, 4 1V8 (power), 5 GND, 6 CONFIG[2], 7 CONFIG[0], 8 CONFIG[1], 9 GPIO_21, 10 WL_HOST_WAKE, 11 GPIO_12, 12 BT_HOST_WAKE, 13 GPIO_31, 14 GPIO_30, 15 PCM_SYNC, 16 PCM_CLK, 17 PCM_OUT, 18 PCM_IN, 19 GND, 20 GND, 21 ANT2, 22 GND, 23 GND, 24 ANT0, 25 GND, 26 NC, 27 GND, 28 GND, 29 ANT1, 30 GND, 31 GND, 32 GPIO_28, 33 GPIO_29, 34 GPIO_2, 35 GPIO_3, 36 BT_UART_TX, 37 BT_UART_RX, 38 BT_UART_RTS, 39 BT_UART_CTS, 40 PCIE_PME#, 41 PCI_CLKREQ#, 42 PCIE_PERST#, 43 PCIE_REFCLKN, 44 PCIE_REFCLKP, 45 PCIE_RDN, 46 PCIE_RDP, 47 PCIE_TDN, 48 PCIE_TDP, 49 GND, 50 SD_D2, 51 SD_D3, 52 SD_CMD, 53 SD_CLK, 54 SD_D0, 55 SD_D1, 56 NC, 57 NC, 58 PD#, 59 NC, 60 LPO_IN, 61 NC, 62 NC, 63 NC, 64 NC, 65 GPIO_13, 66 GPIO_24, 67 GPIO_25, 68 GPIO_26, 69 GPIO_27, 70 GPIO_23, 71 GPIO_22, 72 RF_CNTL10_N, 73 RF_CNTL9_N, 74 RF_CNTL8_N, 75 RF_CNTL7_N, 76 NC, 77 NC, 78 RF_CNTL6_N, 79 RF_CNTL5_N, 80 RF_CNTL4_N, 81 RF_CNTL3_P, 82 RF_CNTL2_N, 83 RF_CNTL1_P, 84 RF_CNTL0_N, 85 GPIO_14, 86 WL_HOST_WAKE, 87 BT_HOST_WAKE, 88 GPIO_17, 89 GPIO_18, 90 GPIO_19, 91 GPIO_0, 92 GPIO_1, 93 NC, 94 NC, EP

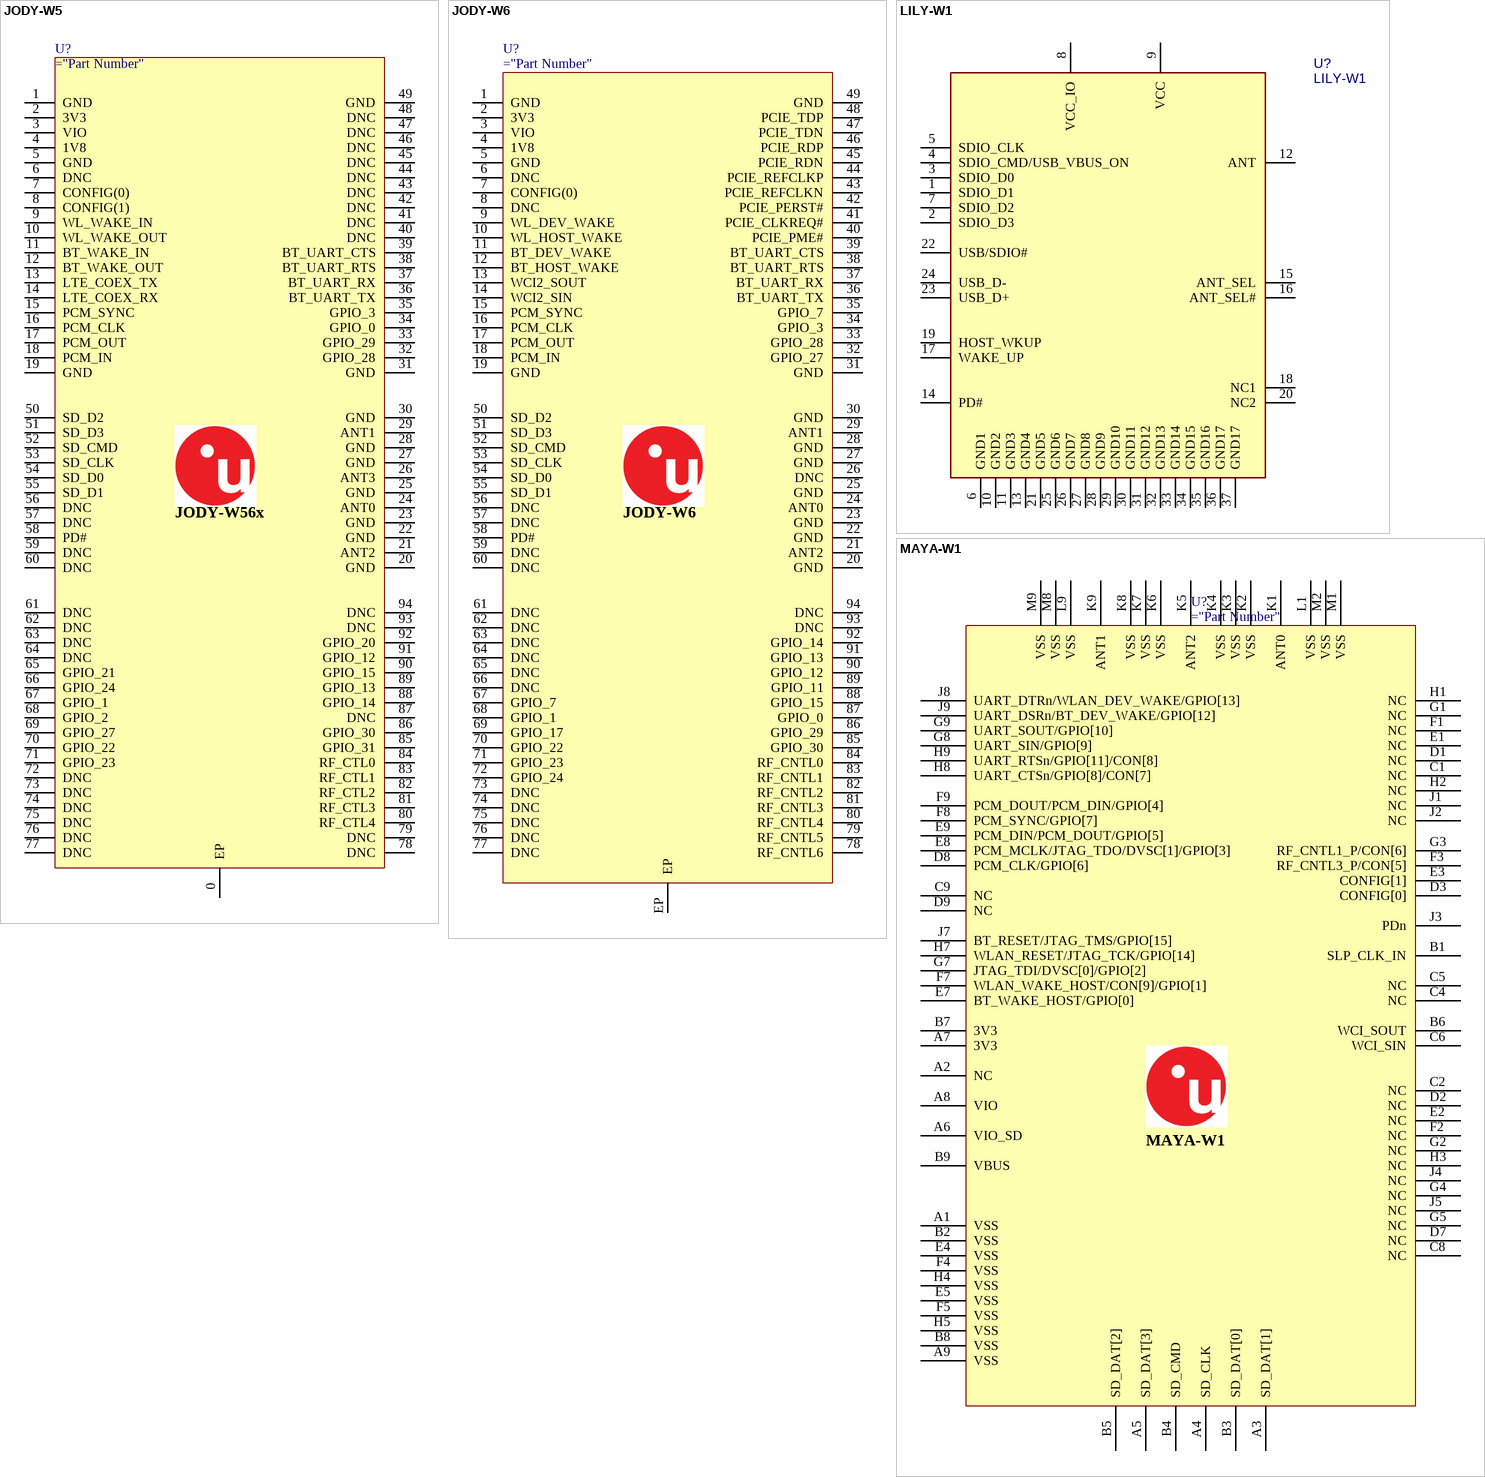
[diagram p5: symbols JODY-W5 to MAYA-W1]

## JODY-W5
designator U?  (no BOM)
u-blox JODY-W5 host-based modules with Wi-Fi and dual-mode Bluetooth; ComponentLink1URL: *; ComponentLink1Description: Datasheet; ComponentLink2URL: *; ComponentLink2Description: Supplier link; Manufacturer P/N: *
footprint JODY-W5 (Module footprint for EVB (include Paste Mask))
pins: 0 EP, 1 GND, 2 3V3, 3 VIO, 4 1V8, 5 GND, 6 DNC, 7 CONFIG(0), 8 CONFIG(1), 9 WL_WAKE_IN, 10 WL_WAKE_OUT, 11 BT_WAKE_IN, 12 BT_WAKE_OUT, 13 LTE_COEX_TX, 14 LTE_COEX_RX, 15 PCM_SYNC, 16 PCM_CLK, 17 PCM_OUT, 18 PCM_IN, 19 GND, 20 GND, 21 ANT2, 22 GND, 23 GND, 24 ANT0, 25 GND, 26 ANT3, 27 GND, 28 GND, 29 ANT1, 30 GND, 31 GND, 32 GPIO_28, 33 GPIO_29, 34 GPIO_0, 35 GPIO_3, 36 BT_UART_TX, 37 BT_UART_RX, 38 BT_UART_RTS, 39 BT_UART_CTS, 40 DNC, 41 DNC, 42 DNC, 43 DNC, 44 DNC, 45 DNC, 46 DNC, 47 DNC, 48 DNC, 49 GND, 50 SD_D2, 51 SD_D3, 52 SD_CMD, 53 SD_CLK, 54 SD_D0, 55 SD_D1, 56 DNC, 57 DNC, 58 PD#, 59 DNC, 60 DNC, 61 DNC, 62 DNC, 63 DNC, 64 DNC, 65 GPIO_21, 66 GPIO_24, 67 GPIO_1, 68 GPIO_2, 69 GPIO_27, 70 GPIO_22, 71 GPIO_23, 72 DNC, 73 DNC, 74 DNC, 75 DNC, 76 DNC, 77 DNC, 78 DNC, 79 DNC, 80 RF_CTL4, 81 RF_CTL3, 82 RF_CTL2, 83 RF_CTL1, 84 RF_CTL0, 85 GPIO_31, 86 GPIO_30, 87 DNC, 88 GPIO_14, 89 GPIO_13, 90 GPIO_15, 91 GPIO_12, 92 GPIO_20, 93 DNC, 94 DNC
text: JODY-W56x

## JODY-W6
designator U?  (no BOM)
u-blox JODY-W5 host-based modules with Wi-Fi and dual-mode Bluetooth; ComponentLink1URL: *; ComponentLink1Description: Datasheet; ComponentLink2URL: *; ComponentLink2Description: Supplier link; Manufacturer P/N: *
footprint JODY-W6 (Host-based modules with 2x2 Wi-Fi and dual-mode Bluetooth)
pins: 1 GND, 2 3V3, 3 VIO, 4 1V8, 5 GND, 6 DNC, 7 CONFIG(0), 8 DNC, 9 WL_DEV_WAKE, 10 WL_HOST_WAKE, 11 BT_DEV_WAKE, 12 BT_HOST_WAKE, 13 WCI2_SOUT, 14 WCI2_SIN, 15 PCM_SYNC, 16 PCM_CLK, 17 PCM_OUT, 18 PCM_IN, 19 GND, 20 GND, 21 ANT2, 22 GND, 23 GND, 24 ANT0, 25 GND, 26 DNC, 27 GND, 28 GND, 29 ANT1, 30 GND, 31 GND, 32 GPIO_27, 33 GPIO_28, 34 GPIO_3, 35 GPIO_7, 36 BT_UART_TX, 37 BT_UART_RX, 38 BT_UART_RTS, 39 BT_UART_CTS, 40 PCIE_PME#, 41 PCIE_CLKREQ#, 42 PCIE_PERST#, 43 PCIE_REFCLKN, 44 PCIE_REFCLKP, 45 PCIE_RDN, 46 PCIE_RDP, 47 PCIE_TDN, 48 PCIE_TDP, 49 GND, 50 SD_D2, 51 SD_D3, 52 SD_CMD, 53 SD_CLK, 54 SD_D0, 55 SD_D1, 56 DNC, 57 DNC, 58 PD#, 59 DNC, 60 DNC, 61 DNC, 62 DNC, 63 DNC, 64 DNC, 65 DNC, 66 DNC, 67 GPIO_7, 68 GPIO_1, 69 GPIO_17, 70 GPIO_22, 71 GPIO_23, 72 GPIO_24, 73 DNC, 74 DNC, 75 DNC, 76 DNC, 77 DNC, 78 RF_CNTL6, 79 RF_CNTL5, 80 RF_CNTL4, 81 RF_CNTL3, 82 RF_CNTL2, 83 RF_CNTL1, 84 RF_CNTL0, 85 GPIO_30, 86 GPIO_29, 87 GPIO_0, 88 GPIO_15, 89 GPIO_11, 90 GPIO_12, 91 GPIO_13, 92 GPIO_14, 93 DNC, 94 DNC, EP

## LILY-W1
designator U?
u-blox LILY-W1 host-based Wi-Fi module; Part Description: Host-based Wi-Fi module; Value: LILY-W1; Manufacturer: u-blox
footprint LILY-W1 (Host-based Wi-Fi module)
pins: 1 SDIO_D1, 2 SDIO_D3, 3 SDIO_D0, 4 SDIO_CMD/USB_VBUS_ON, 5 SDIO_CLK, 6 GND1, 7 SDIO_D2, 8 VCC_IO, 9 VCC, 10 GND2, 11 GND3, 12 ANT, 13 GND4, 14 PD#, 15 ANT_SEL, 16 ANT_SEL#, 17 WAKE_UP, 18 NC1, 19 HOST_WKUP, 20 NC2, 21 GND5, 22 USB/SDIO#, 23 USB_D+, 24 USB_D-, 25 GND6, 26 GND7, 27 GND8, 28 GND9, 29 GND10, 30 GND11, 31 GND12, 32 GND13, 33 GND14, 34 GND15, 35 GND16, 36 GND17, 37 GND17

## MAYA-W1
designator U?
u-blox MAYA-W1 host-based modules with Wi-Fi and dual-mode Bluetooth; ComponentLink1URL: *; ComponentLink1Description: Datasheet; ComponentLink2URL: *; ComponentLink2Description: Supplier link; Manufacturer P/N: *
footprint MAYA-W1 (MAYA LGA, 86pin ,1.1mm Pitch, 14.3mm x 10.4mm)
pins: A1 VSS (power), A2 NC, A3 SD_DAT[1], A4 SD_CLK, A5 SD_DAT[3], A6 VIO_SD, A7 3V3 (power), A8 VIO (power), A9 VSS (power), B1 SLP_CLK_IN, B2 VSS (power), B3 SD_DAT[0], B4 SD_CMD, B5 SD_DAT[2], B6 WCI_SOUT, B7 3V3 (power), B8 VSS (power), B9 VBUS (power), C1 NC, C2 NC, C4 NC, C5 NC, C6 WCI_SIN, C8 NC, C9 NC, D1 NC, D2 NC, D3 CONFIG[0], D7 NC, D8 PCM_CLK/GPIO[6], D9 NC, E1 NC, E2 NC, E3 CONFIG[1], E4 VSS (power), E5 VSS (power), E7 BT_WAKE_HOST/GPIO[0], E8 PCM_MCLK/JTAG_TDO/DVSC[1]/GPIO[3], E9 PCM_DIN/PCM_DOUT/GPIO[5], F1 NC, F2 NC, F3 RF_CNTL3_P/CON[5], F4 VSS (power), F5 VSS (power), F7 WLAN_WAKE_HOST/CON[9]/GPIO[1], F8 PCM_SYNC/GPIO[7], F9 PCM_DOUT/PCM_DIN/GPIO[4], G1 NC, G2 NC, G3 RF_CNTL1_P/CON[6], G4 NC, G5 NC, G7 JTAG_TDI/DVSC[0]/GPIO[2], G8 UART_SIN/GPIO[9], G9 UART_SOUT/GPIO[10], H1 NC, H2 NC, H3 NC, H4 VSS (power), H5 VSS (power), H7 WLAN_RESET/JTAG_TCK/GPIO[14], H8 UART_CTSn/GPIO[8]/CON[7], H9 UART_RTSn/GPIO[11]/CON[8], J1 NC, J2 NC, J3 PDn, J4 NC, J5 NC, J7 BT_RESET/JTAG_TMS/GPIO[15], J8 UART_DTRn/WLAN_DEV_WAKE/GPIO[13], J9 UART_DSRn/BT_DEV_WAKE/GPIO[12], K1 ANT0, K2 VSS (power), K3 VSS (power), K4 VSS (power), K5 ANT2, K6 VSS (power), K7 VSS (power), K8 VSS (power), K9 ANT1, L1 VSS (power), L9 VSS (power), M1 VSS (power), M2 VSS (power), M8 VSS (power), M9 VSS (power)

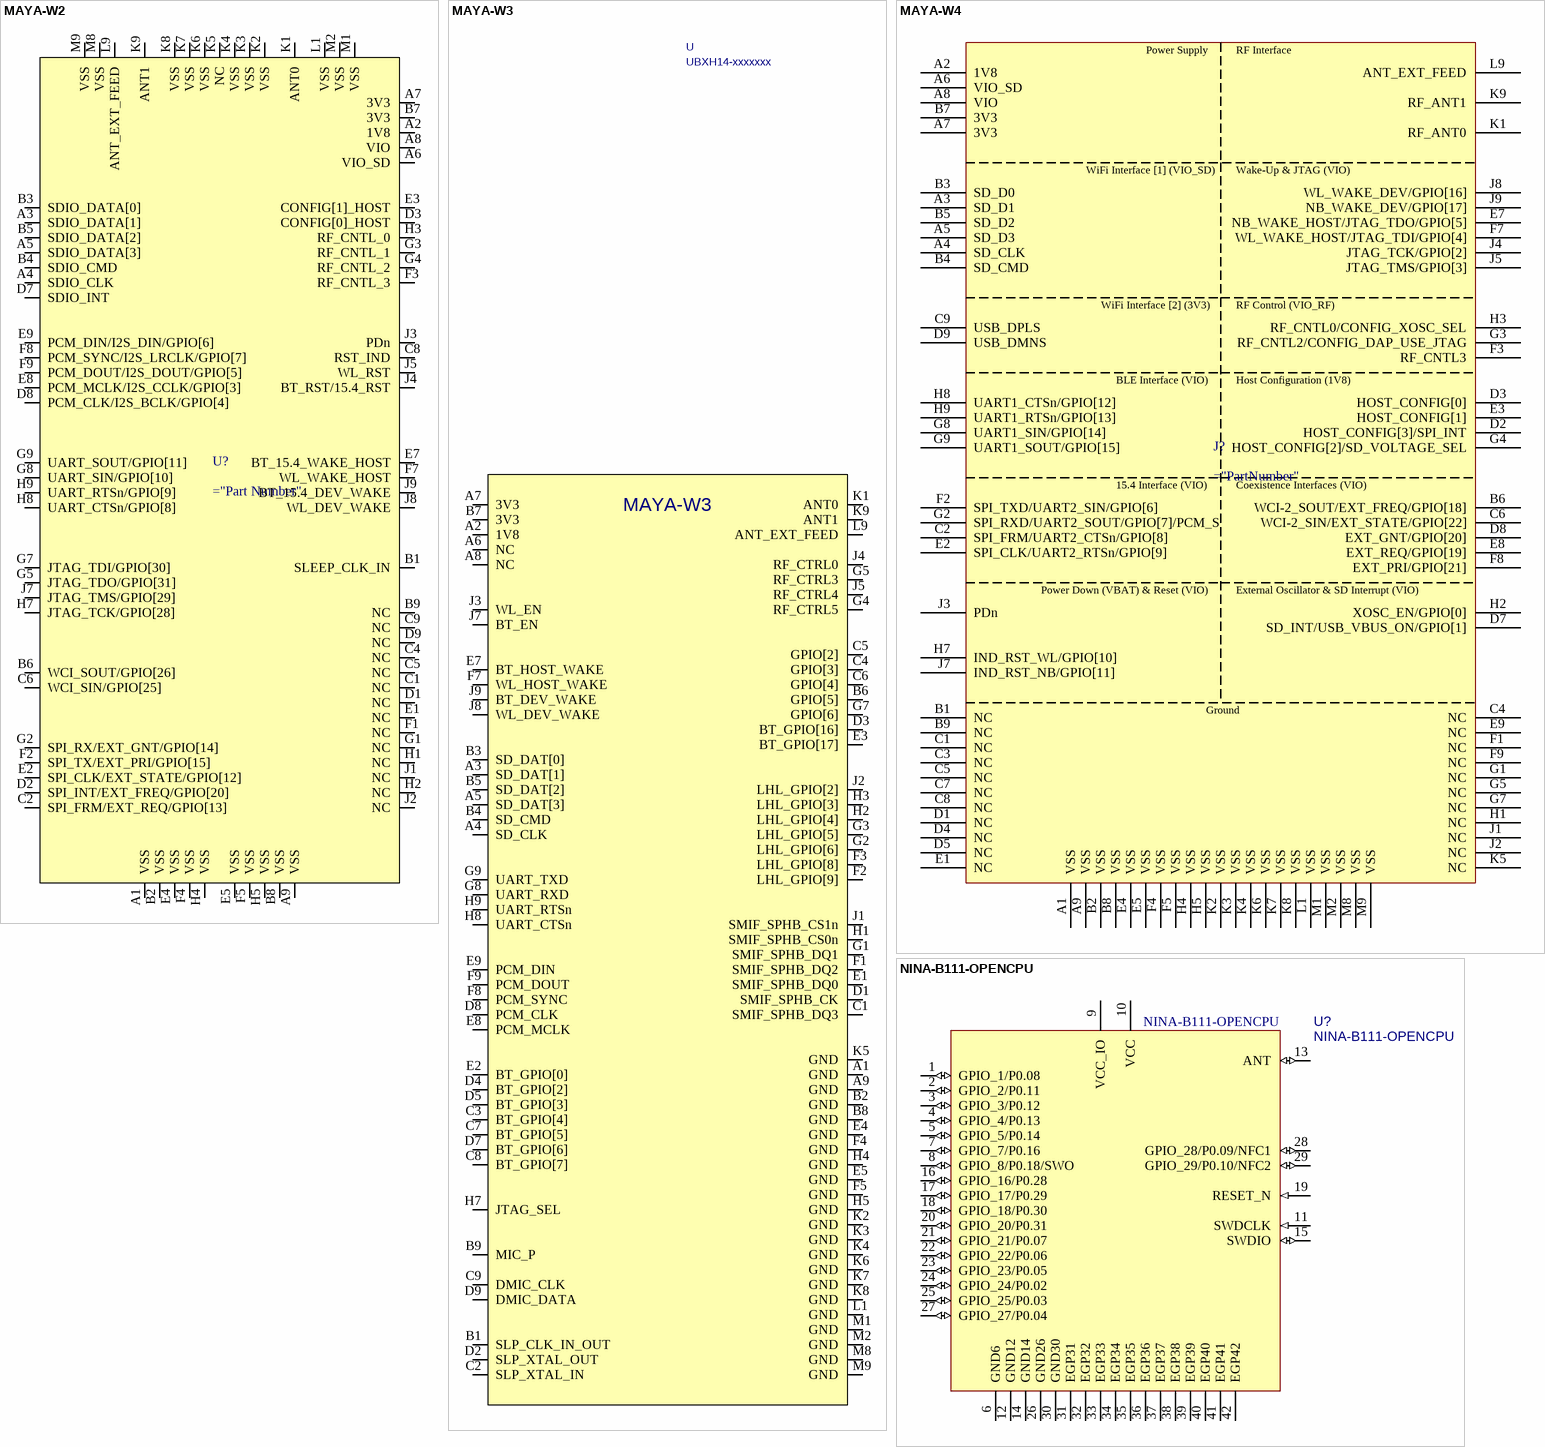
[diagram p6: symbols MAYA-W2 to NINA-B111-OPENCPU]

## MAYA-W2
designator U?
u-blox MAYA-W2 host-based modules with Wi-Fi and dual-mode Bluetooth
footprint MAYA-W2_2UFL-ANT (MAYA-W2 Footprint 86 Pin, / U.FL Antenna connection)
footprint MAYA-W2_EMB-ANT (MAYA-W2 Footprint 86 Pin, / Embedded antenna)
pins: A1 VSS, A2 1V8, A3 SDIO_DATA[1], A4 SDIO_CLK, A5 SDIO_DATA[3], A6 VIO_SD, A7 3V3, A8 VIO, A9 VSS, B1 SLEEP_CLK_IN, B2 VSS, B3 SDIO_DATA[0], B4 SDIO_CMD, B5 SDIO_DATA[2], B6 WCI_SOUT/GPIO[26], B7 3V3, B8 VSS, B9 NC "reserved for VUSB", C1 NC "reserved for PCIe", C2 SPI_FRM/EXT_REQ/GPIO[13], C4 NC "reserved for I2C", C5 NC "reserved for I2C", C6 WCI_SIN/GPIO[25], C8 RST_IND, C9 NC "reserved for USB", D1 NC "reserved for PCIe", D2 SPI_INT/EXT_FREQ/GPIO[20], D3 CONFIG[0]_HOST, D7 SDIO_INT, D8 PCM_CLK/I2S_BCLK/GPIO[4], D9 NC "reserved for USB", E1 NC "reserved for PCIe", E2 SPI_CLK/EXT_STATE/GPIO[12], E3 CONFIG[1]_HOST, E4 VSS, E5 VSS, E7 BT_15.4_WAKE_HOST, E8 PCM_MCLK/I2S_CCLK/GPIO[3], E9 PCM_DIN/I2S_DIN/GPIO[6], F1 NC "reserved for PCIe", F2 SPI_TX/EXT_PRI/GPIO[15], F3 RF_CNTL_3, F4 VSS, F5 VSS, F7 WL_WAKE_HOST, F8 PCM_SYNC/I2S_LRCLK/GPIO[7], F9 PCM_DOUT/I2S_DOUT/GPIO[5], G1 NC "reserved for PCIe", G2 SPI_RX/EXT_GNT/GPIO[14], G3 RF_CNTL_1, G4 RF_CNTL_2, G5 JTAG_TDO/GPIO[31], G7 JTAG_TDI/GPIO[30], G8 UART_SIN/GPIO[10], G9 UART_SOUT/GPIO[11], H1 NC "reserved for PCIe", H2 NC "reserved for PCIe", H3 RF_CNTL_0, H4 VSS, H5 VSS, H7 JTAG_TCK/GPIO[28], H8 UART_CTSn/GPIO[8], H9 UART_RTSn/GPIO[9], J1 NC "reserved for PCIe", J2 NC "reserved for PCIe", J3 PDn, J4 BT_RST/15.4_RST, J5 WL_RST, J7 JTAG_TMS/GPIO[29], J8 WL_DEV_WAKE, J9 BT_15.4_DEV_WAKE, K1 ANT0, K2 VSS, K3 VSS, K4 VSS, K5 NC, K6 VSS, K7 VSS, K8 VSS, K9 ANT1, L1 VSS, L9 ANT_EXT_FEED, M1 VSS, M2 VSS, M8 VSS, M9 VSS

## MAYA-W3
designator U, comment UBXH14-xxxxxxx
MAYA-W3 Module; Editor: igor.shevchenko; Env: ROHS; Permitted Use: Volume Products; Perferred: PREF; Part Number: UBXH14-xxxxxxx; Min Operating Temp: -40°C; Max Operating Temp: 85°C; Part Type: Short Range Multiradio Module U-Blox MAYA-W3; RefDes: U
footprint MAYA-W3_Pin-ANT (MAYA-W3 Footprint 90 Pin, / Pin Antenna connection)
footprint MAYA-W3_Emb-ANT (MAYA-W3 Footprint 90 Pin, / Embedded Antenna)
footprint MAYA-W3_1UFL-ANT (MAYA-W3 Footprint 90 Pin, / U.FL Antenna connection, / Sinle antenna variant (WiFi+BT))
footprint MAYA-W3_2UFL-ANT (MAYA-W3 Footprint 90 Pin, / U.FL Antenna connection, / Dual antenna variant (WiFi and BT separated))
pins: A1 GND, A2 1V8, A3 SD_DAT[1], A4 SD_CLK, A5 SD_DAT[3], A6 NC, A7 3V3, A8 NC, A9 GND, B1 SLP_CLK_IN_OUT, B2 GND, B3 SD_DAT[0], B4 SD_CMD, B5 SD_DAT[2], B6 GPIO[5], B7 3V3, B8 GND, B9 MIC_P "reserved for VUSB", C1 SMIF_SPHB_DQ3 "reserved for PCIe", C2 SLP_XTAL_IN, C3 BT_GPIO[4], C4 GPIO[3] "reserved for I2C", C5 GPIO[2] "reserved for I2C", C6 GPIO[4], C7 BT_GPIO[5], C8 BT_GPIO[7], C9 DMIC_CLK "reserved for USB", D1 SMIF_SPHB_CK "reserved for PCIe", D2 SLP_XTAL_OUT, D3 BT_GPIO[16], D4 BT_GPIO[2], D5 BT_GPIO[3], D7 BT_GPIO[6], D8 PCM_CLK, D9 DMIC_DATA "reserved for USB", E1 SMIF_SPHB_DQ0 "reserved for PCIe", E2 BT_GPIO[0], E3 BT_GPIO[17], E4 GND, E5 GND, E7 BT_HOST_WAKE, E8 PCM_MCLK, E9 PCM_DIN, F1 SMIF_SPHB_DQ2 "reserved for PCIe", F2 LHL_GPIO[9], F3 LHL_GPIO[8], F4 GND, F5 GND, F7 WL_HOST_WAKE, F8 PCM_SYNC, F9 PCM_DOUT, G1 SMIF_SPHB_DQ1 "reserved for PCIe", G2 LHL_GPIO[6], G3 LHL_GPIO[5], G4 RF_CTRL5, G5 RF_CTRL3, G7 GPIO[6], G8 UART_RXD, G9 UART_TXD, H1 SMIF_SPHB_CS0n "reserved for PCIe", H2 LHL_GPIO[4] "reserved for PCIe", H3 LHL_GPIO[3], H4 GND, H5 GND, H7 JTAG_SEL, H8 UART_CTSn, H9 UART_RTSn, J1 SMIF_SPHB_CS1n "reserved for PCIe", J2 LHL_GPIO[2] "reserved for PCIe", J3 WL_EN, J4 RF_CTRL0, J5 RF_CTRL4, J7 BT_EN, J8 WL_DEV_WAKE, J9 BT_DEV_WAKE, K1 ANT0, K2 GND, K3 GND, K4 GND, K5 GND, K6 GND, K7 GND, K8 GND, K9 ANT1, L1 GND, L9 ANT_EXT_FEED, M1 GND, M2 GND, M8 GND, M9 GND

## MAYA-W4
designator J?
u-blox MAYA-W4 host-based modules with Wi-Fi and dual-mode Bluetooth; Part Description: MAYA-W4 Triradio Wlan, BLE, 15.4 module; Env: ROHS; Permitted Use: Volume Products; Mfg P/N Released: Yes; Ref Des: J; Manufacturer PN: MAYA-W4; Manufacturer: u-blox; Value: MAYA-W4; Supplier: u-blox; Part Type: PCB Assembly; Preferred: Yes
footprint MAYA_LGA90R_1430X1040 (MAYA-W4 LGA-90)
pins: A1 VSS, A2 1V8, A3 SD_D1, A4 SD_CLK, A5 SD_D3, A6 VIO_SD, A7 3V3, A8 VIO, A9 VSS, B1 NC, B2 VSS, B3 SD_D0, B4 SD_CMD, B5 SD_D2, B6 WCI-2_SOUT/EXT_FREQ/GPIO[18], B7 3V3, B8 VSS, B9 NC, C1 NC, C2 SPI_FRM/UART2_CTSn/GPIO[8], C3 NC, C4 NC, C5 NC, C6 WCI-2_SIN/EXT_STATE/GPIO[22], C7 NC, C8 NC, C9 USB_DPLS, D1 NC, D2 HOST_CONFIG[3]/SPI_INT, D3 HOST_CONFIG[0], D4 NC, D5 NC, D7 SD_INT/USB_VBUS_ON/GPIO[1], D8 EXT_GNT/GPIO[20], D9 USB_DMNS, E1 NC, E2 SPI_CLK/UART2_RTSn/GPIO[9], E3 HOST_CONFIG[1], E4 VSS, E5 VSS, E7 NB_WAKE_HOST/JTAG_TDO/GPIO[5], E8 EXT_REQ/GPIO[19], E9 NC, F1 NC, F2 SPI_TXD/UART2_SIN/GPIO[6], F3 RF_CNTL3, F4 VSS, F5 VSS, F7 WL_WAKE_HOST/JTAG_TDI/GPIO[4], F8 EXT_PRI/GPIO[21], F9 NC, G1 NC, G2 SPI_RXD/UART2_SOUT/GPIO[7]/PCM_S, G3 RF_CNTL2/CONFIG_DAP_USE_JTAG, G4 HOST_CONFIG[2]/SD_VOLTAGE_SEL, G5 NC, G7 NC, G8 UART1_SIN/GPIO[14], G9 UART1_SOUT/GPIO[15], H1 NC, H2 XOSC_EN/GPIO[0], H3 RF_CNTL0/CONFIG_XOSC_SEL, H4 VSS, H5 VSS, H7 IND_RST_WL/GPIO[10], H8 UART1_CTSn/GPIO[12], H9 UART1_RTSn/GPIO[13], J1 NC, J2 NC, J3 PDn, J4 JTAG_TCK/GPIO[2], J5 JTAG_TMS/GPIO[3], J7 IND_RST_NB/GPIO[11], J8 WL_WAKE_DEV/GPIO[16], J9 NB_WAKE_DEV/GPIO[17], K1 RF_ANT0, K2 VSS, K3 VSS, K4 VSS, K5 NC, K6 VSS, K7 VSS, K8 VSS, K9 RF_ANT1, L1 VSS, L9 ANT_EXT_FEED, M1 VSS, M2 VSS, M8 VSS, M9 VSS
text: Power Supply; RF Interface; WiFi Interface [1] (VIO_SD); Wake-Up & JTAG (VIO); WiFi Interface [2] (3V3); RF Control (VIO_RF); BLE Interface (VIO); Host Configuration (1V8); 15.4 Interface (VIO); Coexistence Interfaces (VIO); Power Down (VBAT) & Reset (VIO); External Oscillator & SD Interrupt (VIO); Ground

## NINA-B111-OPENCPU
designator U?
u-blox NINA-B112 Bluetooth 5 LE module; Part Description: Stand-alone Bluetooth low energy module; Manufacturer: u-blox; Value: NINA-B111-OPENCPU
footprint NINA_LGA42R_1060X1000X220_PIN (Stand-alone Bluetooth low energy module)
pins: 1 GPIO_1/P0.08 (io), 2 GPIO_2/P0.11 (io), 3 GPIO_3/P0.12 (io), 4 GPIO_4/P0.13 (io), 5 GPIO_5/P0.14 (io), 6 GND6 (power), 7 GPIO_7/P0.16 (io), 8 GPIO_8/P0.18/SWO (io), 9 VCC_IO (power), 10 VCC (power), 11 SWDCLK (in), 12 GND12 (power), 13 ANT (io), 14 GND14 (power), 15 SWDIO (io), 16 GPIO_16/P0.28 (io), 17 GPIO_17/P0.29 (io), 18 GPIO_18/P0.30 (io), 19 RESET_N (in), 20 GPIO_20/P0.31 (io), 21 GPIO_21/P0.07 (io), 22 GPIO_22/P0.06 (io), 23 GPIO_23/P0.05 (io), 24 GPIO_24/P0.02 (io), 25 GPIO_25/P0.03 (io), 26 GND26 (power), 27 GPIO_27/P0.04 (io), 28 GPIO_28/P0.09/NFC1 (io), 29 GPIO_29/P0.10/NFC2 (io), 30 GND30 (power), 31 EGP31 (power), 32 EGP32 (power), 33 EGP33 (power), 34 EGP34 (power), 35 EGP35 (power), 36 EGP36 (power), 37 EGP37 (power), 38 EGP38 (power), 39 EGP39 (power), 40 EGP40 (power), 41 EGP41 (power), 42 EGP42 (power)

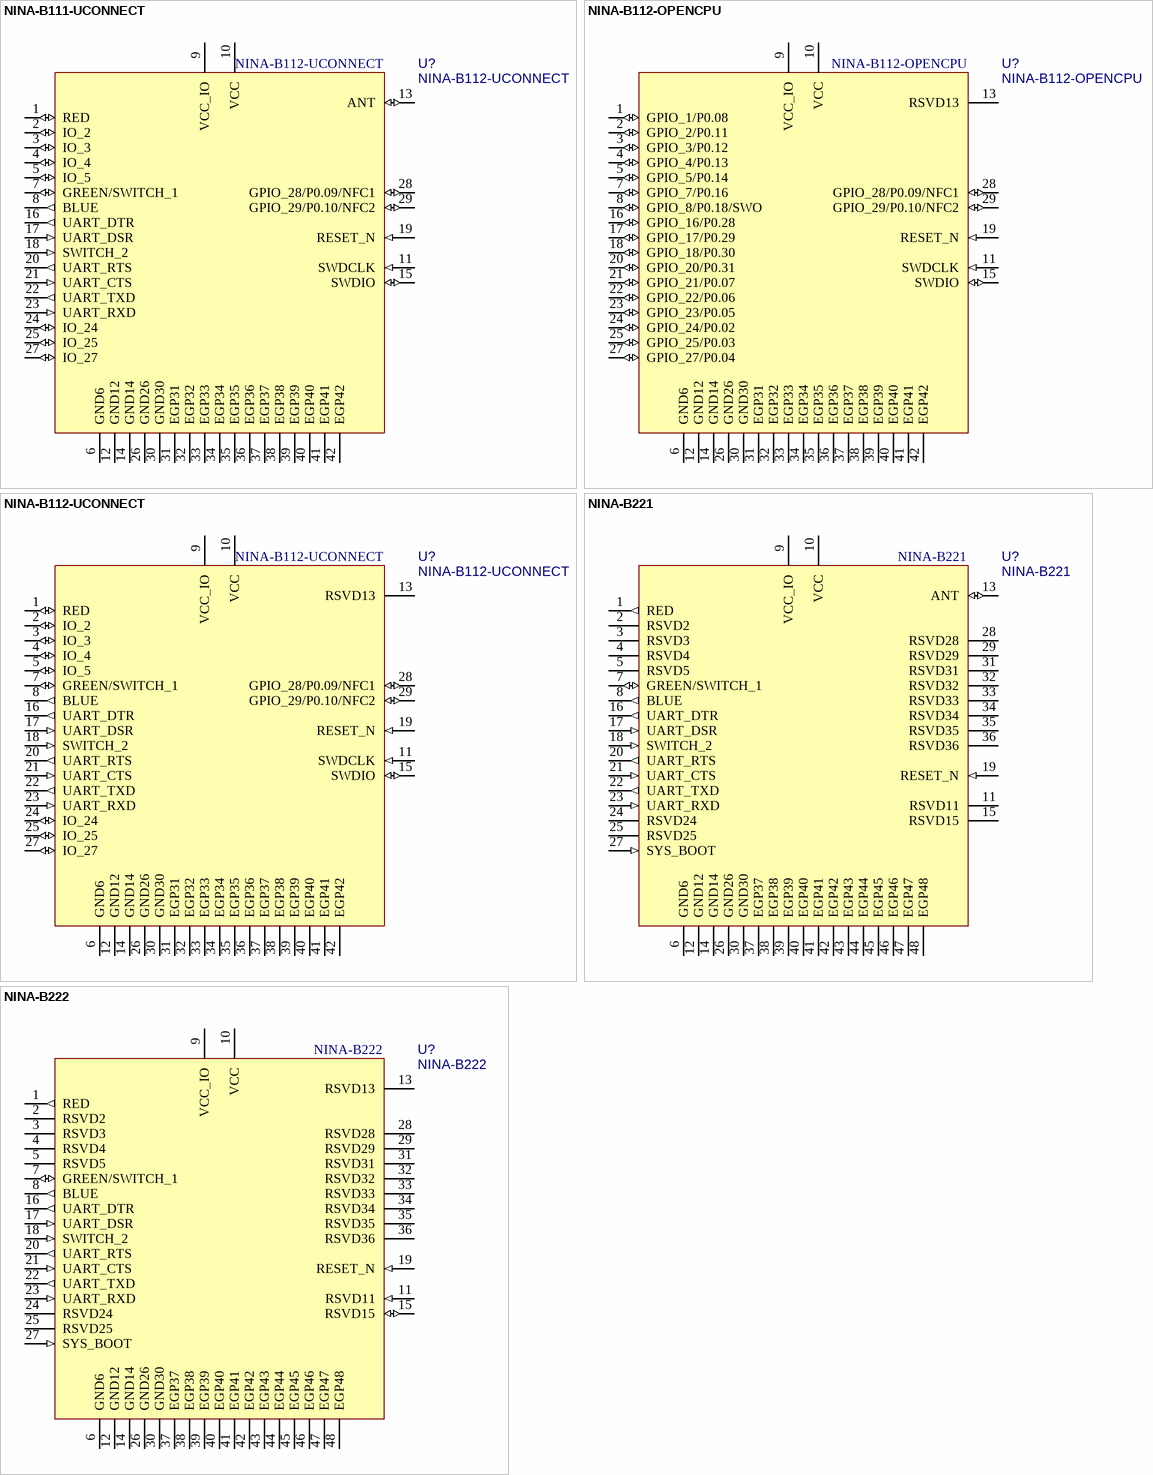
[diagram p7: symbols NINA-B111-UCONNECT to NINA-B222]

## NINA-B111-UCONNECT
designator U?, comment NINA-B112-UCONNECT
u-blox NINA-B112 Bluetooth 5 LE module; Part Description: Stand-alone Bluetooth low energy module; Manufacturer: u-blox; Value: NINA-B112-UCONNECT
footprint NINA_LGA42R_1060X1000X220_PIN (Stand-alone Bluetooth low energy module)
pins: 1 RED (io), 2 IO_2 (io), 3 IO_3 (io), 4 IO_4 (io), 5 IO_5 (io), 6 GND6 (power), 7 GREEN/SWITCH_1 (io), 8 BLUE (out), 9 VCC_IO (power), 10 VCC (power), 11 SWDCLK (in), 12 GND12 (power), 13 ANT (io), 14 GND14 (power), 15 SWDIO (io), 16 UART_DTR (out), 17 UART_DSR (in), 18 SWITCH_2 (in), 19 RESET_N (in), 20 UART_RTS (out), 21 UART_CTS (in), 22 UART_TXD (out), 23 UART_RXD (in), 24 IO_24 (io), 25 IO_25 (io), 26 GND26 (power), 27 IO_27 (io), 28 GPIO_28/P0.09/NFC1 (io), 29 GPIO_29/P0.10/NFC2 (io), 30 GND30 (power), 31 EGP31 (power), 32 EGP32 (power), 33 EGP33 (power), 34 EGP34 (power), 35 EGP35 (power), 36 EGP36 (power), 37 EGP37 (power), 38 EGP38 (power), 39 EGP39 (power), 40 EGP40 (power), 41 EGP41 (power), 42 EGP42 (power)

## NINA-B112-OPENCPU
designator U?
u-blox NINA-B112 Bluetooth 5 LE module; Part Description: Stand-alone Bluetooth low energy module; Manufacturer: u-blox; Value: NINA-B112-OPENCPU
footprint NINA_LGA42R_1400X1000X380_PIFA (Stand-alone Bluetooth low energy module)
pins: 1 GPIO_1/P0.08 (io), 2 GPIO_2/P0.11 (io), 3 GPIO_3/P0.12 (io), 4 GPIO_4/P0.13 (io), 5 GPIO_5/P0.14 (io), 6 GND6 (power), 7 GPIO_7/P0.16 (io), 8 GPIO_8/P0.18/SWO (io), 9 VCC_IO (power), 10 VCC (power), 11 SWDCLK (in), 12 GND12 (power), 13 RSVD13, 14 GND14 (power), 15 SWDIO (io), 16 GPIO_16/P0.28 (io), 17 GPIO_17/P0.29 (io), 18 GPIO_18/P0.30 (io), 19 RESET_N (in), 20 GPIO_20/P0.31 (io), 21 GPIO_21/P0.07 (io), 22 GPIO_22/P0.06 (io), 23 GPIO_23/P0.05 (io), 24 GPIO_24/P0.02 (io), 25 GPIO_25/P0.03 (io), 26 GND26 (power), 27 GPIO_27/P0.04 (io), 28 GPIO_28/P0.09/NFC1 (io), 29 GPIO_29/P0.10/NFC2 (io), 30 GND30 (power), 31 EGP31 (power), 32 EGP32 (power), 33 EGP33 (power), 34 EGP34 (power), 35 EGP35 (power), 36 EGP36 (power), 37 EGP37 (power), 38 EGP38 (power), 39 EGP39 (power), 40 EGP40 (power), 41 EGP41 (power), 42 EGP42 (power)

## NINA-B112-UCONNECT
designator U?
u-blox NINA-B112 Bluetooth 5 LE module; Part Description: Stand-alone Bluetooth low energy module; Manufacturer: u-blox; Value: NINA-B112-UCONNECT
footprint NINA_LGA42R_1400X1000X380_PIFA (Stand-alone Bluetooth low energy module)
pins: 1 RED (io), 2 IO_2 (io), 3 IO_3 (io), 4 IO_4 (io), 5 IO_5 (io), 6 GND6 (power), 7 GREEN/SWITCH_1 (io), 8 BLUE (out), 9 VCC_IO (power), 10 VCC (power), 11 SWDCLK (in), 12 GND12 (power), 13 RSVD13, 14 GND14 (power), 15 SWDIO (io), 16 UART_DTR (out), 17 UART_DSR (in), 18 SWITCH_2 (in), 19 RESET_N (in), 20 UART_RTS (out), 21 UART_CTS (in), 22 UART_TXD (out), 23 UART_RXD (in), 24 IO_24 (io), 25 IO_25 (io), 26 GND26 (power), 27 IO_27 (io), 28 GPIO_28/P0.09/NFC1 (io), 29 GPIO_29/P0.10/NFC2 (io), 30 GND30 (power), 31 EGP31 (power), 32 EGP32 (power), 33 EGP33 (power), 34 EGP34 (power), 35 EGP35 (power), 36 EGP36 (power), 37 EGP37 (power), 38 EGP38 (power), 39 EGP39 (power), 40 EGP40 (power), 41 EGP41 (power), 42 EGP42 (power)

## NINA-B221
designator U?
u-blox NINA-B221 Bluetooth 5 LE, WiFi module; Part Description: Stand-alone Bluetooth low energy module; Manufacturer: u-blox; Value: NINA-B221
footprint NINA_LGA48R_1060X1000X220_PIN (Stand-alone Bluetooth low energy module)
pins: 1 RED (out), 2 RSVD2, 3 RSVD3, 4 RSVD4, 5 RSVD5, 6 GND6 (power), 7 GREEN/SWITCH_1 (io), 8 BLUE (out), 9 VCC_IO (power), 10 VCC (power), 11 RSVD11, 12 GND12 (power), 13 ANT (io), 14 GND14 (power), 15 RSVD15, 16 UART_DTR (out), 17 UART_DSR (in), 18 SWITCH_2 (in), 19 RESET_N (in), 20 UART_RTS (out), 21 UART_CTS (in), 22 UART_TXD (out), 23 UART_RXD (in), 24 RSVD24, 25 RSVD25, 26 GND26 (power), 27 SYS_BOOT (in), 28 RSVD28, 29 RSVD29, 30 GND30 (power), 31 RSVD31, 32 RSVD32, 33 RSVD33, 34 RSVD34, 35 RSVD35, 36 RSVD36, 37 EGP37 (power), 38 EGP38 (power), 39 EGP39 (power), 40 EGP40 (power), 41 EGP41 (power), 42 EGP42 (power), 43 EGP43 (power), 44 EGP44 (power), 45 EGP45 (power), 46 EGP46 (power), 47 EGP47 (power), 48 EGP48 (power)

## NINA-B222
designator U?
u-blox NINA-B221 Bluetooth 5 LE, WiFi module; Part Description: Stand-alone Bluetooth low energy module; Manufacturer: u-blox; Value: NINA-B222
footprint NINA_LGA48R_1400X1000X380_PIFA (Stand-alone Bluetooth low energy module)
pins: 1 RED (out), 2 RSVD2, 3 RSVD3, 4 RSVD4, 5 RSVD5, 6 GND6 (power), 7 GREEN/SWITCH_1 (io), 8 BLUE (out), 9 VCC_IO (power), 10 VCC (power), 11 RSVD11 (in), 12 GND12 (power), 13 RSVD13, 14 GND14 (power), 15 RSVD15 (io), 16 UART_DTR (out), 17 UART_DSR (in), 18 SWITCH_2 (in), 19 RESET_N (in), 20 UART_RTS (out), 21 UART_CTS (in), 22 UART_TXD (out), 23 UART_RXD (in), 24 RSVD24, 25 RSVD25, 26 GND26 (power), 27 SYS_BOOT (in), 28 RSVD28, 29 RSVD29, 30 GND30 (power), 31 RSVD31, 32 RSVD32, 33 RSVD33, 34 RSVD34, 35 RSVD35, 36 RSVD36, 37 EGP37 (power), 38 EGP38 (power), 39 EGP39 (power), 40 EGP40 (power), 41 EGP41 (power), 42 EGP42 (power), 43 EGP43 (power), 44 EGP44 (power), 45 EGP45 (power), 46 EGP46 (power), 47 EGP47 (power), 48 EGP48 (power)

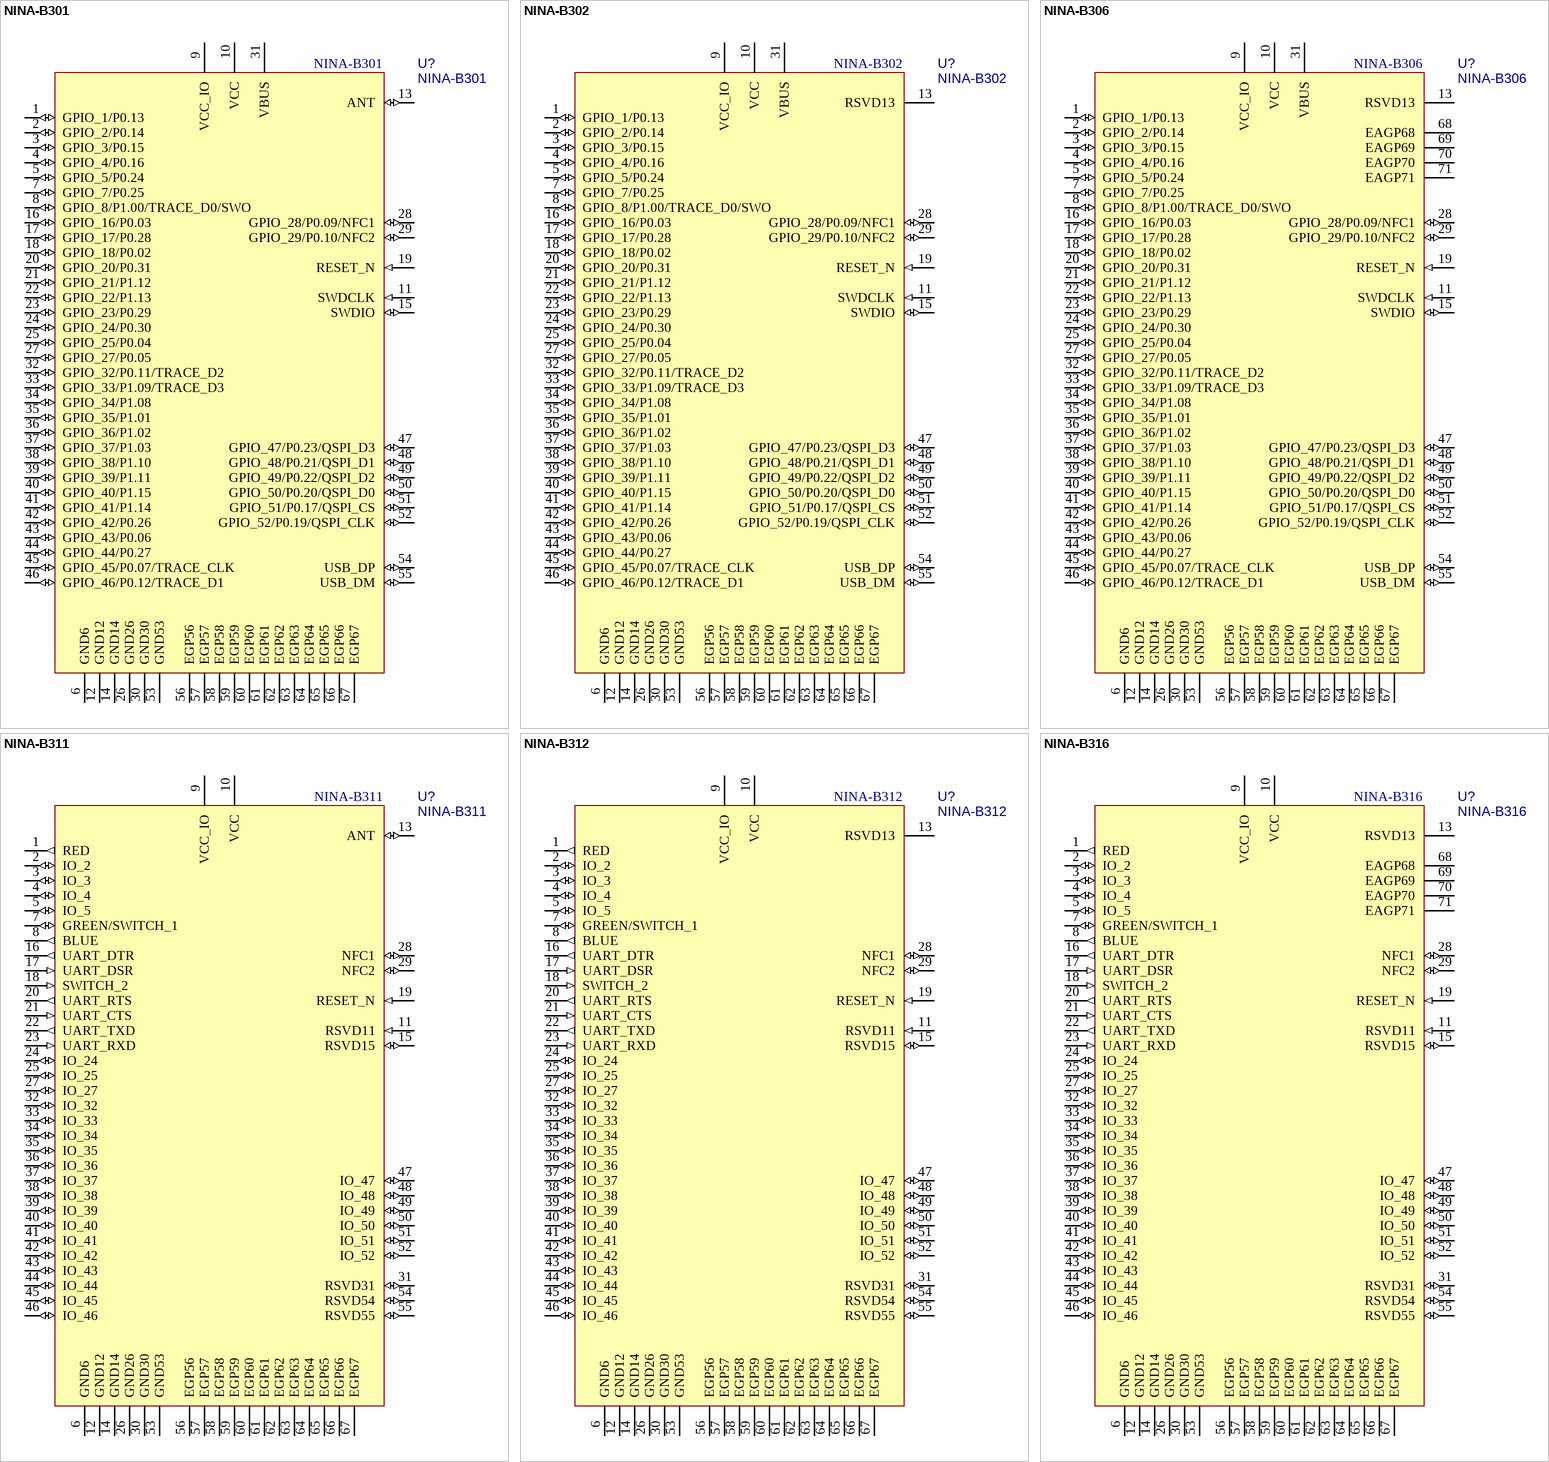
[diagram p8: symbols NINA-B301 to NINA-B316]

## NINA-B301
designator U?
u-blox NINA-B301 Bluetooth 5 LE, 802.15.4 module; Part Description: Stand-alone Bluetooth low energy module; Manufacturer: u-blox; Value: NINA-B301
footprint NINA_LGA67R_1160X1000X223_PIN (Stand-alone Bluetooth low energy module)
pins: 1 GPIO_1/P0.13 (io), 2 GPIO_2/P0.14 (io), 3 GPIO_3/P0.15 (io), 4 GPIO_4/P0.16 (io), 5 GPIO_5/P0.24 (io), 6 GND6 (power), 7 GPIO_7/P0.25 (io), 8 GPIO_8/P1.00/TRACE_D0/SWO (io), 9 VCC_IO (power), 10 VCC (power), 11 SWDCLK (in), 12 GND12 (power), 13 ANT (io), 14 GND14 (power), 15 SWDIO (io), 16 GPIO_16/P0.03 (io), 17 GPIO_17/P0.28 (io), 18 GPIO_18/P0.02 (io), 19 RESET_N (in), 20 GPIO_20/P0.31 (io), 21 GPIO_21/P1.12 (io), 22 GPIO_22/P1.13 (io), 23 GPIO_23/P0.29 (io), 24 GPIO_24/P0.30 (io), 25 GPIO_25/P0.04 (io), 26 GND26 (power), 27 GPIO_27/P0.05 (io), 28 GPIO_28/P0.09/NFC1 (io), 29 GPIO_29/P0.10/NFC2 (io), 30 GND30 (power), 31 VBUS (power), 32 GPIO_32/P0.11/TRACE_D2 (io), 33 GPIO_33/P1.09/TRACE_D3 (io), 34 GPIO_34/P1.08 (io), 35 GPIO_35/P1.01 (io), 36 GPIO_36/P1.02 (io), 37 GPIO_37/P1.03 (io), 38 GPIO_38/P1.10 (io), 39 GPIO_39/P1.11 (io), 40 GPIO_40/P1.15 (io), 41 GPIO_41/P1.14 (io), 42 GPIO_42/P0.26 (io), 43 GPIO_43/P0.06 (io), 44 GPIO_44/P0.27 (io), 45 GPIO_45/P0.07/TRACE_CLK (io), 46 GPIO_46/P0.12/TRACE_D1 (io), 47 GPIO_47/P0.23/QSPI_D3 (io), 48 GPIO_48/P0.21/QSPI_D1 (io), 49 GPIO_49/P0.22/QSPI_D2 (io), 50 GPIO_50/P0.20/QSPI_D0 (io), 51 GPIO_51/P0.17/QSPI_CS (io), 52 GPIO_52/P0.19/QSPI_CLK (io), 53 GND53 (power), 54 USB_DP (io), 55 USB_DM (io), 56 EGP56 (power), 57 EGP57 (power), 58 EGP58 (power), 59 EGP59 (power), 60 EGP60 (power), 61 EGP61 (power), 62 EGP62 (power), 63 EGP63 (power), 64 EGP64 (power), 65 EGP65 (power), 66 EGP66 (power), 67 EGP67 (power)